# Altium schematic symbol library TarabusLib_KOR.SchLib: 323 symbols (part 3 of 4)
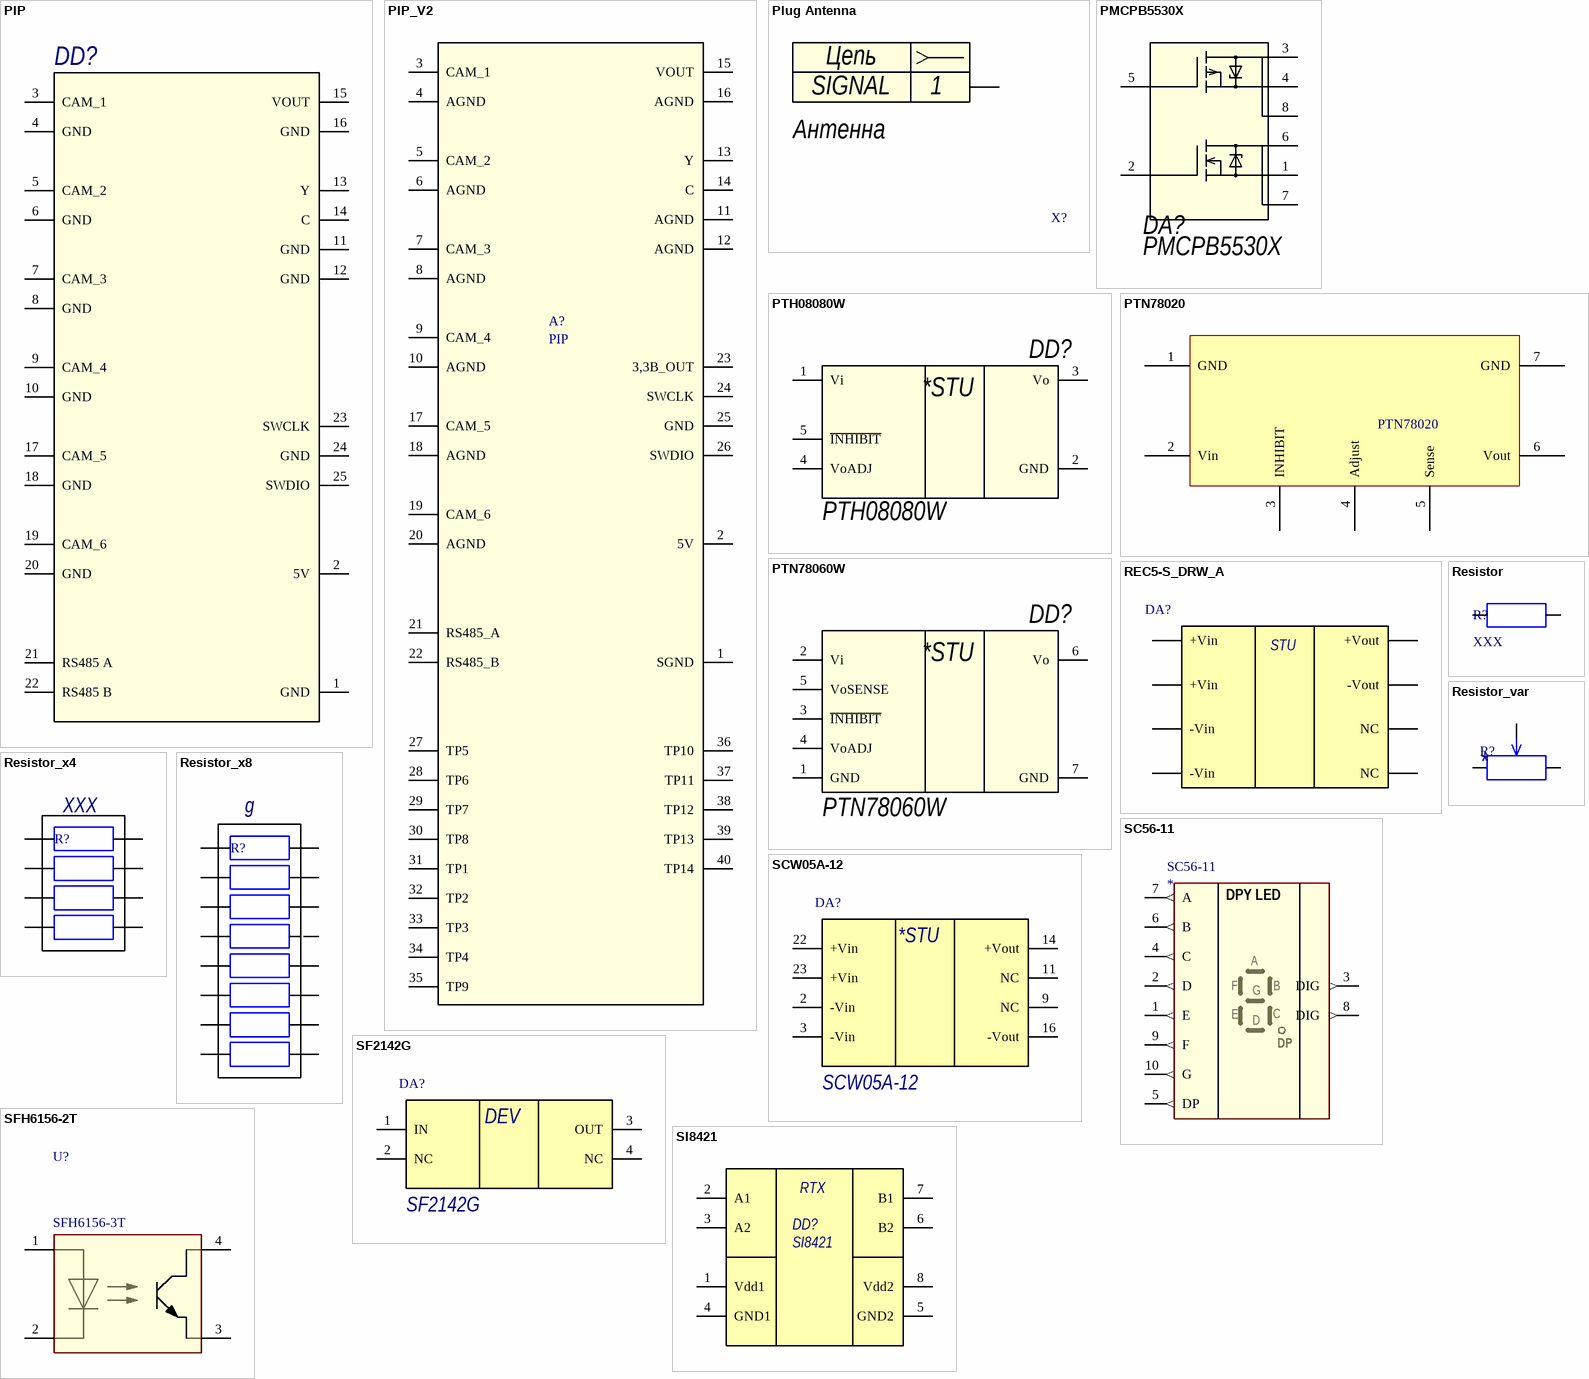
[diagram p44: symbols PIP to SI8421]

## PMCPB5530X
designator DA?  Name: PMCPB5530X  (hidden comment: *)
N & P MOSFET
footprint SOT1118
pins: 1, 2, 3, 4, 5, 6, 7, 8

## PTH08080W
designator DD?
DC-DC 2.5А; Name: PTH08080W
footprint PTN7860
pins: 1 Vi, 2 GND, 3 Vo, 4 VoADJ, 5 ~{INHIBIT}
text: *STU

## PTN78020
designator PTN78020  (value not drawn)
pins: 1 GND, 2 Vin, 3 INHIBIT, 4 Adjust, 5 Sense, 6 Vout, 7 GND

## PTN78060W
designator DD?
Name: PTN78060W
footprint PTN7860
pins: 1 GND, 2 Vi, 3 ~{INHIBIT}, 4 VoADJ, 5 VoSENSE, 6 Vo, 7 GND
text: *STU

## REC5-S_DRW_A
designator DA?
=Name: REC5-S_DRW
footprint SCW05
pins: 2 -Vin (power), 3 -Vin (power), 9 NC, 11 NC, 14 +Vout (power), 16 -Vout (power), 22 +Vin (power), 23 +Vin (power)
text: STU

## Resistor
designator R?, comment XXX
Резистор; Value: XXX
footprint R0805
footprint R2512
pins: 1, 2

## Resistor_var
designator R?
Value: *
footprint Res_trimmer
pins: 1, 2, 3

## Resistor_x4
designator R?, comment XXX
Резистор; Value: XXX
footprint R0402_A
footprint R0402_H
footprint R0603_H
footprint R0805_A
footprint R0805_H
footprint R1206_A
footprint R1206_H
footprint R1210_A
footprint R1210_H
footprint R2010_A
footprint R2010_H
footprint R2512_A
footprint R2512_H
footprint R0603_A
footprint R0603x4
pins: 1, 2, 3, 4, 5, 6, 7, 8

## Resistor_x8
designator R?, comment g
Резистор; Value: g
footprint R0402_A
footprint R0402_H
footprint R0603_H
footprint R0805_A
footprint R0805_H
footprint R1206_A
footprint R1206_H
footprint R1210_A
footprint R1210_H
footprint R2010_A
footprint R2010_H
footprint R2512_A
footprint R2512_H
footprint R0603_A
footprint R0603x4
footprint R0603x8
pins: 1, 2, 3, 4, 5, 6, 7, 8, 9, 10, 11, 12, 13, 14, 15, 16

## SC56-11
designator SC56-11
7-ми сегментный 1 разрядный цифровой индикатор; Назначение: Длительность
pins: 1 E (out), 2 D (out), 3 DIG (out), 4 C (out), 5 DP (out), 6 B (out), 7 A (out), 8 DIG (out), 9 F (out), 10 G (out)
text: DPY LED

## SCW05A-12
designator DA?
DC\DC; Name: SCW05A-12
footprint SCW05
pins: 2 -Vin, 3 -Vin, 9 NC, 11 NC, 14 +Vout, 16 -Vout, 22 +Vin, 23 +Vin
text: *STU

## SF2142G
designator DA?
867.5 MHz SAW Filter; Name: SF2142G
footprint SM2520-4_A
pins: 1 IN, 2 NC, 3 OUT, 4 NC
text: DEV

## SFH6156-2T
designator U?, comment SFH6156-3T
4-Pin Phototransistor Optocoupler; Published: 24-Mar-1999; LatestRevisionDate: 04-Mar-2005; LatestRevisionNote: Sch pins 3 & 4 Swapped.; DatasheetVersion: Nov-2003; PackageReference: DIP-4; Publisher: Altium Limited
footprint DIP-4 (DIP; 4 Leads; Row Spacing 7.62 mm; Pitch 2.54 mm)
pins: 1, 2, 3, 4

## SI8421
designator DD?
Name: SI8421
footprint SOIC127P600X175-8N (SOIC, 8-Leads, Body 5,0x4,0mm (max), Pitch 1,27mm, IPC Medium Density)
pins: 1 Vdd1, 2 A1, 3 A2, 4 GND1, 5 GND2, 6 B2, 7 B1, 8 Vdd2
text: RTX

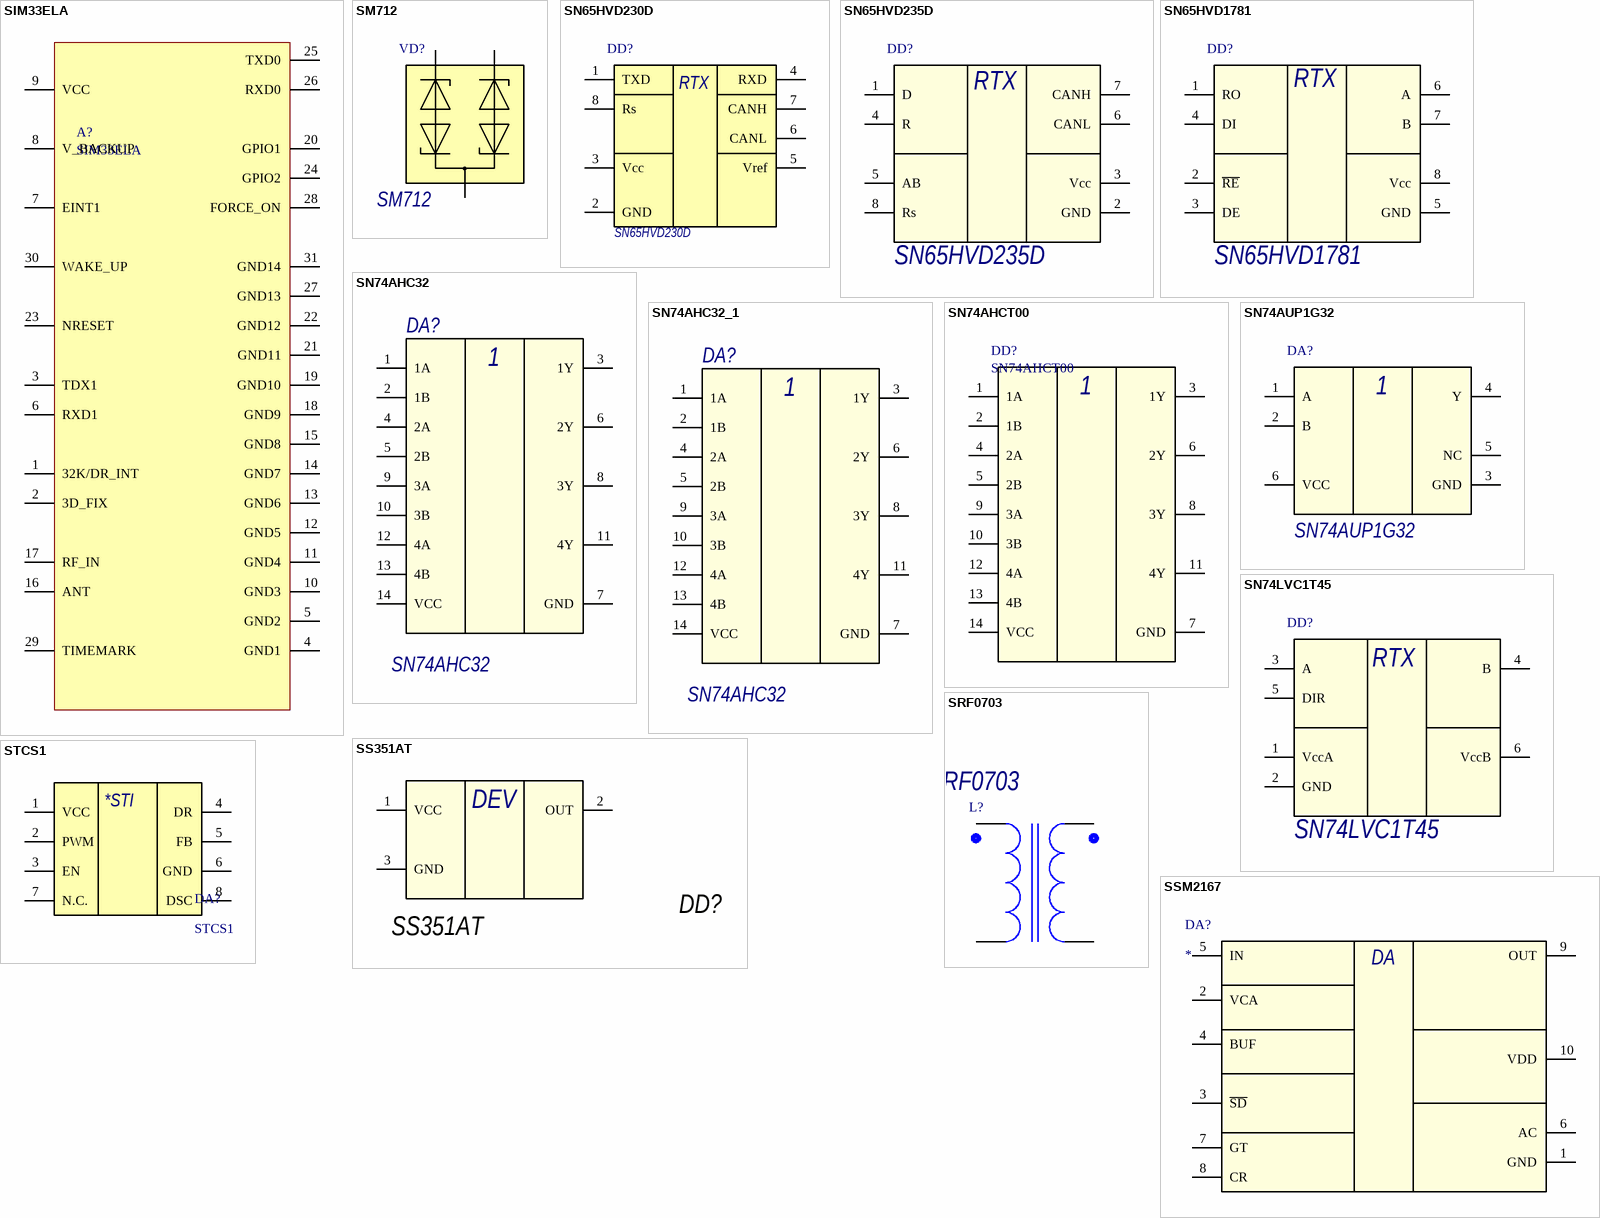
[diagram p20: symbols SIM33ELA to STCS1]

## SIM33ELA
designator A?
Manufacturer: SimCom; ComponentLink1URL: http://www.macrogroup.ru/catalog/partnumber/1485; ComponentLink1Description: Datasheet
pins: 1 32K/DR_INT, 2 3D_FIX, 3 TDX1, 4 GND1, 5 GND2, 6 RXD1, 7 EINT1, 8 V_BACKUP, 9 VCC, 10 GND3, 11 GND4, 12 GND5, 13 GND6, 14 GND7, 15 GND8, 16 ANT, 17 RF_IN, 18 GND9, 19 GND10, 20 GPIO1, 21 GND11, 22 GND12, 23 NRESET, 24 GPIO2, 25 TXD0, 26 RXD0, 27 GND13, 28 FORCE_ON, 29 TIMEMARK, 30 WAKE_UP, 31 GND14

## SM712
designator VD?
Сборка TVS-диодов; Name: SM712
footprint SOT23-3_A
footprint SOT23-3_H
pins: 1, 2, 3

## SN65HVD230D
designator DD?
Приемопередатчик CAN; Name: SN65HVD230D
footprint SO8_A
footprint SO8_H
pins: 1 TXD, 2 GND, 3 Vcc, 4 RXD, 5 Vref, 6 CANL, 7 CANH, 8 Rs
text: RTX

## SN65HVD235D
designator DD?
Приемопередатчик CAN; Name: SN65HVD235D
footprint SO8_A
footprint SO8_H
pins: 1 D, 2 GND, 3 Vcc, 4 R, 5 AB, 6 CANL, 7 CANH, 8 Rs
text: RTX

## SN65HVD1781
designator DD?
Приемопередатчик RS485; Name: SN65HVD1781
footprint SO8_A
footprint SO8_H
pins: 1 RO, 2 ~{RE}, 3 DE, 4 DI, 5 GND, 6 A, 7 B, 8 Vcc
text: RTX

## SN74AHC32
designator DA?
QUADRUPLE 2-INPUT POSITIVE-OR GATES; Value: Value; Name: SN74AHC32
footprint S-PVQFN-N14_H
footprint S-PVQFN-N14_A
pins: 1 1A, 2 1B, 3 1Y, 4 2A, 5 2B, 6 2Y, 7 GND, 8 3Y, 9 3A, 10 3B, 11 4Y, 12 4A, 13 4B, 14 VCC

## SN74AHC32_1
designator DA?, comment SN74AHC32
QUADRUPLE 2-INPUT POSITIVE-OR GATES; Value: Value; Name: SN74AHC32
footprint S-PVQFN-N14_H
footprint S-PVQFN-N14_A
pins: 1 1A, 2 1B, 3 1Y, 4 2A, 5 2B, 6 2Y, 7 GND, 8 3Y, 9 3A, 10 3B, 11 4Y, 12 4A, 13 4B, 14 VCC

## SN74AHCT00
designator DD?
Name: SN74AHCT00
pins: 1 1A, 2 1B, 3 1Y, 4 2A, 5 2B, 6 2Y, 7 GND, 8 3Y, 9 3A, 10 3B, 11 4Y, 12 4A, 13 4B, 14 VCC

## SN74AUP1G32
designator DA?
Name: SN74AUP1G32
footprint 6SON (PSON, 6-Leads, Body 3x4 mm, Pitch 0.8mm, NSC Recommended)
pins: 1 A, 2 B, 3 GND, 4 Y, 5 NC, 6 VCC

## SN74LVC1T45
designator DD?
Преобразователь уровней; Name: SN74LVC1T45
pins: 1 VccA, 2 GND, 3 A, 4 B, 5 DIR, 6 VccB
text: RTX

## SRF0703
designator L?, comment Name: SRF0703  (hidden comment: XXX)
Синфазный дроссель; Value: XXX
footprint SRF0703
pins: 1, 2, 3, 4

## SS351AT
designator DD?  (value not drawn)
SS351AT; Name: SS351AT
footprint SOT23-3_A
footprint SOT23-3_H
footprint TO-92
pins: 1 VCC, 2 OUT, 3 GND
text: DEV

## SSM2167
designator DA?
Name: *
footprint TSSO3x5-G10 (Shrink Small Outline; 10 Leads; Body Width 3 mm; Pitch 0.5 mm)
pins: 1 GND, 2 VCA, 3 ~{SD}, 4 BUF, 5 IN, 6 AC, 7 GT, 8 CR, 9 OUT, 10 VDD
text: DA

## STCS1
designator DA?
Драйвер светодиодов
footprint SO8_H
pins: 1 VCC, 2 PWM, 3 EN, 4 DR, 5 FB, 6 GND, 7 N.C., 8 DSC
text: *STI

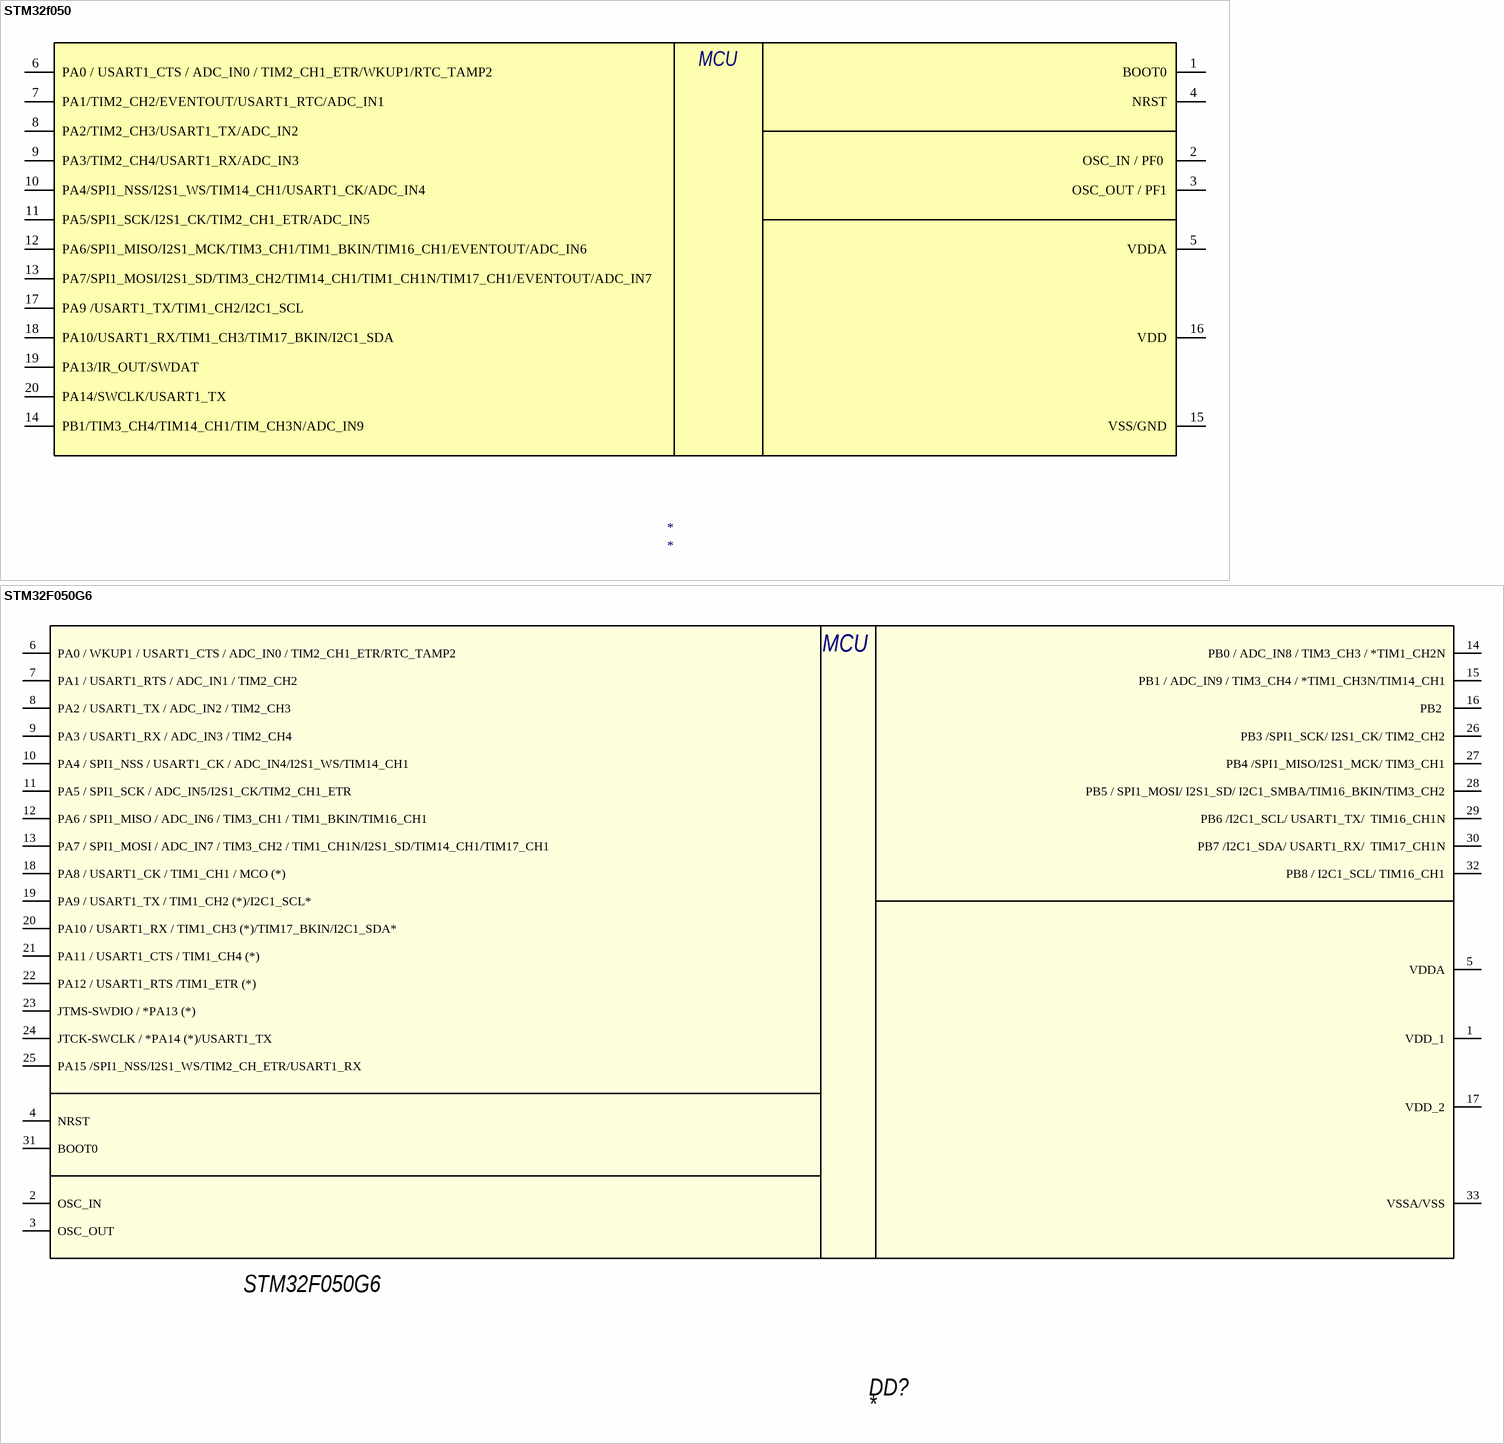
[diagram p21: symbols STM32f050 to STM32F050G6]

## STM32f050
designator *
Микроконтроллер
footprint TSSOP20
pins: 1 BOOT0, 2 OSC_IN / PF0 , 3 OSC_OUT / PF1, 4 NRST, 5 VDDA, 6 PA0 / USART1_CTS / ADC_IN0 / TIM2_CH1_ETR/WKUP1/RTC_TAMP2, 7 PA1/TIM2_CH2/EVENTOUT/USART1_RTC/ADC_IN1, 8 PA2/TIM2_CH3/USART1_TX/ADC_IN2, 9 PA3/TIM2_CH4/USART1_RX/ADC_IN3, 10 PA4/SPI1_NSS/I2S1_WS/TIM14_CH1/USART1_CK/ADC_IN4, 11 PA5/SPI1_SCK/I2S1_CK/TIM2_CH1_ETR/ADC_IN5, 12 PA6/SPI1_MISO/I2S1_MCK/TIM3_CH1/TIM1_BKIN/TIM16_CH1/EVENTOUT/ADC_IN6, 13 PA7/SPI1_MOSI/I2S1_SD/TIM3_CH2/TIM14_CH1/TIM1_CH1N/TIM17_CH1/EVENTOUT/ADC_IN7, 14 PB1/TIM3_CH4/TIM14_CH1/TIM_CH3N/ADC_IN9, 15 VSS/GND, 16 VDD, 17 PA9 /USART1_TX/TIM1_CH2/I2C1_SCL, 18 PA10/USART1_RX/TIM1_CH3/TIM17_BKIN/I2C1_SDA, 19 PA13/IR_OUT/SWDAT, 20 PA14/SWCLK/USART1_TX
text: MCU

## STM32F050G6
designator DD?  Name: STM32F050G6
Микроконтроллер
footprint UFQFPN 32
pins: 1 VDD_1, 2 OSC_IN, 3 OSC_OUT, 4 NRST, 5 VDDA, 6 PA0 / WKUP1 / USART1_CTS / ADC_IN0 / TIM2_CH1_ETR/RTC_TAMP2, 7 PA1 / USART1_RTS / ADC_IN1 / TIM2_CH2, 8 PA2 / USART1_TX / ADC_IN2 / TIM2_CH3, 9 PA3 / USART1_RX / ADC_IN3 / TIM2_CH4, 10 PA4 / SPI1_NSS / USART1_CK / ADC_IN4/I2S1_WS/TIM14_CH1, 11 PA5 / SPI1_SCK / ADC_IN5/I2S1_CK/TIM2_CH1_ETR, 12 PA6 / SPI1_MISO / ADC_IN6 / TIM3_CH1 / TIM1_BKIN/TIM16_CH1, 13 PA7 / SPI1_MOSI / ADC_IN7 / TIM3_CH2 / TIM1_CH1N/I2S1_SD/TIM14_CH1/TIM17_CH1, 14 PB0 / ADC_IN8 / TIM3_CH3 / *TIM1_CH2N, 15 PB1 / ADC_IN9 / TIM3_CH4 / *TIM1_CH3N/TIM14_CH1, 16 PB2 , 17 VDD_2, 18 PA8 / USART1_CK / TIM1_CH1 / MCO (*), 19 PA9 / USART1_TX / TIM1_CH2 (*)/I2C1_SCL*, 20 PA10 / USART1_RX / TIM1_CH3 (*)/TIM17_BKIN/I2C1_SDA*, 21 PA11 / USART1_CTS / TIM1_CH4 (*), 22 PA12 / USART1_RTS /TIM1_ETR (*), 23 JTMS-SWDIO / *PA13 (*), 24 JTCK-SWCLK / *PA14 (*)/USART1_TX, 25 PA15 /SPI1_NSS/I2S1_WS/TIM2_CH_ETR/USART1_RX , 26 PB3 /SPI1_SCK/ I2S1_CK/ TIM2_CH2, 27 PB4 /SPI1_MISO/I2S1_MCK/ TIM3_CH1, 28 PB5 / SPI1_MOSI/ I2S1_SD/ I2C1_SMBA/TIM16_BKIN/TIM3_CH2, 29 PB6 /I2C1_SCL/ USART1_TX/  TIM16_CH1N, 30 PB7 /I2C1_SDA/ USART1_RX/  TIM17_CH1N, 31 BOOT0, 32 PB8 / I2C1_SCL/ TIM16_CH1, 33 VSSA/VSS
text: MCU

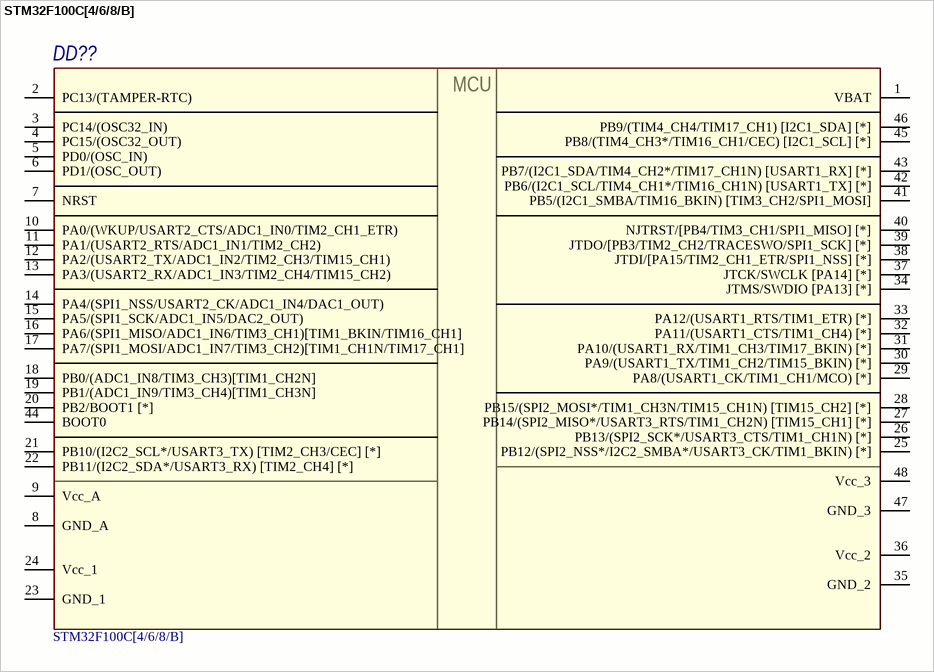
[diagram p22: symbol STM32F100C[4/6/8/B]]

## STM32F100C[4/6/8/B]
designator DD??
Микроконтроллер; Name: STM32F100C[4/6/8/B]
footprint LQFP48_H
footprint LQFP48_L (Thin QFP, 48-Leads, Body 7x7mm, Pitch 0.5mm, IPC High Density)
pins: 1 VBAT, 2 PC13/(TAMPER-RTC), 3 PC14/(OSC32_IN), 4 PC15/(OSC32_OUT), 5 PD0/(OSC_IN), 6 PD1/(OSC_OUT), 7 NRST, 8 GND_A, 9 Vcc_A, 10 PA0/(WKUP/USART2_CTS/ADC1_IN0/TIM2_CH1_ETR), 11 PA1/(USART2_RTS/ADC1_IN1/TIM2_CH2), 12 PA2/(USART2_TX/ADC1_IN2/TIM2_CH3/TIM15_CH1), 13 PA3/(USART2_RX/ADC1_IN3/TIM2_CH4/TIM15_CH2), 14 PA4/(SPI1_NSS/USART2_CK/ADC1_IN4/DAC1_OUT), 15 PA5/(SPI1_SCK/ADC1_IN5/DAC2_OUT), 16 PA6/(SPI1_MISO/ADC1_IN6/TIM3_CH1)[TIM1_BKIN/TIM16_CH1], 17 PA7/(SPI1_MOSI/ADC1_IN7/TIM3_CH2)[TIM1_CH1N/TIM17_CH1], 18 PB0/(ADC1_IN8/TIM3_CH3)[TIM1_CH2N], 19 PB1/(ADC1_IN9/TIM3_CH4)[TIM1_CH3N], 20 PB2/BOOT1 [*], 21 PB10/(I2C2_SCL*/USART3_TX) [TIM2_CH3/CEC] [*], 22 PB11/(I2C2_SDA*/USART3_RX) [TIM2_CH4] [*], 23 GND_1, 24 Vcc_1, 25 PB12/(SPI2_NSS*/I2C2_SMBA*/USART3_CK/TIM1_BKIN) [*], 26 PB13/(SPI2_SCK*/USART3_CTS/TIM1_CH1N) [*], 27 PB14/(SPI2_MISO*/USART3_RTS/TIM1_CH2N) [TIM15_CH1] [*], 28 PB15/(SPI2_MOSI*/TIM1_CH3N/TIM15_CH1N) [TIM15_CH2] [*], 29 PA8/(USART1_CK/TIM1_CH1/MCO) [*], 30 PA9/(USART1_TX/TIM1_CH2/TIM15_BKIN) [*], 31 PA10/(USART1_RX/TIM1_CH3/TIM17_BKIN) [*], 32 PA11/(USART1_CTS/TIM1_CH4) [*], 33 PA12/(USART1_RTS/TIM1_ETR) [*], 34 JTMS/SWDIO [PA13] [*], 35 GND_2, 36 Vcc_2, 37 JTCK/SWCLK [PA14] [*], 38 JTDI/[PA15/TIM2_CH1_ETR/SPI1_NSS] [*], 39 JTDO/[PB3/TIM2_CH2/TRACESWO/SPI1_SCK] [*], 40 NJTRST/[PB4/TIM3_CH1/SPI1_MISO] [*], 41 PB5/(I2C1_SMBA/TIM16_BKIN) [TIM3_CH2/SPI1_MOSI], 42 PB6/(I2C1_SCL/TIM4_CH1*/TIM16_CH1N) [USART1_TX] [*], 43 PB7/(I2C1_SDA/TIM4_CH2*/TIM17_CH1N) [USART1_RX] [*], 44 BOOT0, 45 PB8/(TIM4_CH3*/TIM16_CH1/CEC) [I2C1_SCL] [*], 46 PB9/(TIM4_CH4/TIM17_CH1) [I2C1_SDA] [*], 47 GND_3, 48 Vcc_3
text: MCU

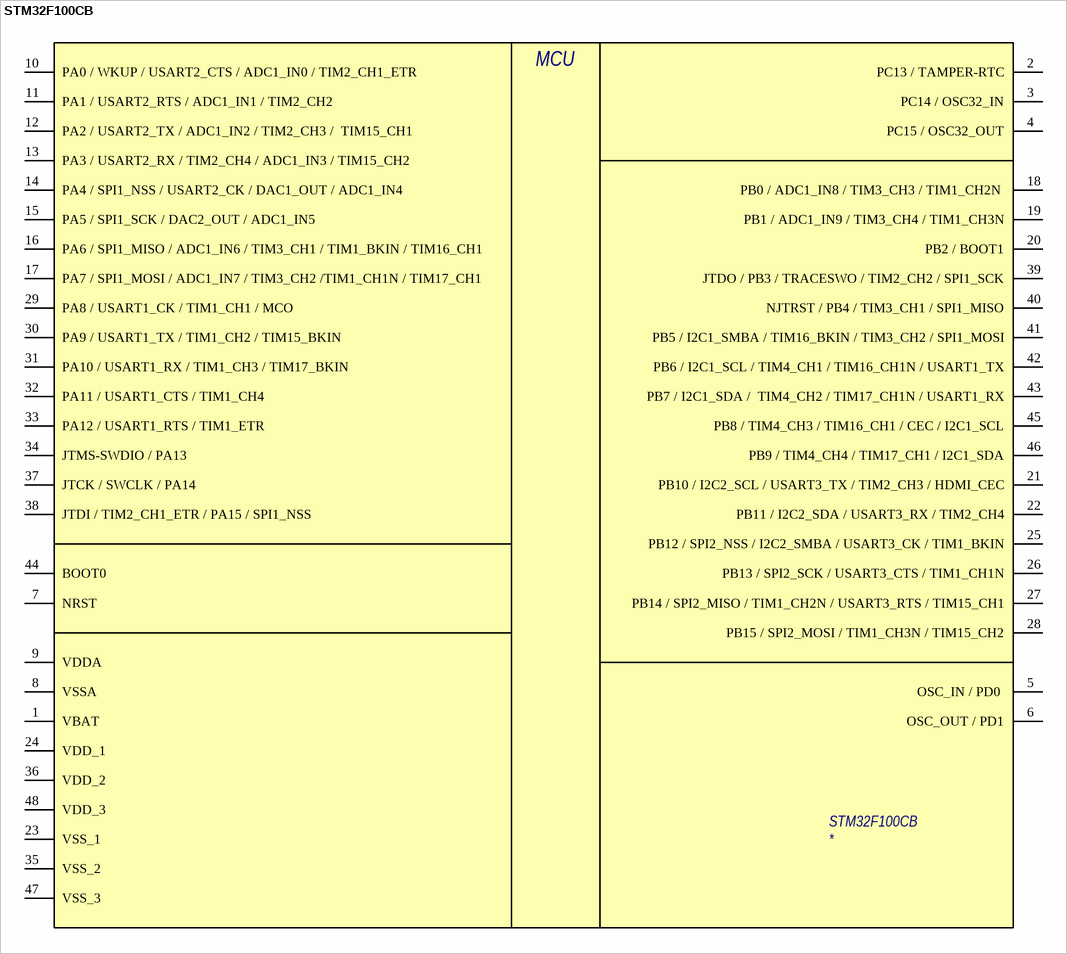
[diagram p23: symbol STM32F100CB]

## STM32F100CB
designator STM32F100CB
Микроконтроллер
footprint LQFP48_H
footprint LQFP48_L (Thin QFP, 48-Leads, Body 7x7mm, Pitch 0.5mm, IPC High Density)
pins: 1 VBAT, 2 PC13 / TAMPER-RTC, 3 PC14 / OSC32_IN, 4 PC15 / OSC32_OUT, 5 OSC_IN / PD0 , 6 OSC_OUT / PD1, 7 NRST, 8 VSSA, 9 VDDA, 10 PA0 / WKUP / USART2_CTS / ADC1_IN0 / TIM2_CH1_ETR , 11 PA1 / USART2_RTS / ADC1_IN1 / TIM2_CH2 , 12 PA2 / USART2_TX / ADC1_IN2 / TIM2_CH3 /  TIM15_CH1, 13 PA3 / USART2_RX / TIM2_CH4 / ADC1_IN3 / TIM15_CH2, 14 PA4 / SPI1_NSS / USART2_CK / DAC1_OUT / ADC1_IN4, 15 PA5 / SPI1_SCK / DAC2_OUT / ADC1_IN5, 16 PA6 / SPI1_MISO / ADC1_IN6 / TIM3_CH1 / TIM1_BKIN / TIM16_CH1, 17 PA7 / SPI1_MOSI / ADC1_IN7 / TIM3_CH2 /TIM1_CH1N / TIM17_CH1, 18 PB0 / ADC1_IN8 / TIM3_CH3 / TIM1_CH2N , 19 PB1 / ADC1_IN9 / TIM3_CH4 / TIM1_CH3N, 20 PB2 / BOOT1, 21 PB10 / I2C2_SCL / USART3_TX / TIM2_CH3 / HDMI_CEC, 22 PB11 / I2C2_SDA / USART3_RX / TIM2_CH4, 23 VSS_1, 24 VDD_1, 25 PB12 / SPI2_NSS / I2C2_SMBA / USART3_CK / TIM1_BKIN, 26 PB13 / SPI2_SCK / USART3_CTS / TIM1_CH1N, 27 PB14 / SPI2_MISO / TIM1_CH2N / USART3_RTS / TIM15_CH1, 28 PB15 / SPI2_MOSI / TIM1_CH3N / TIM15_CH2, 29 PA8 / USART1_CK / TIM1_CH1 / MCO, 30 PA9 / USART1_TX / TIM1_CH2 / TIM15_BKIN, 31 PA10 / USART1_RX / TIM1_CH3 / TIM17_BKIN, 32 PA11 / USART1_CTS / TIM1_CH4, 33 PA12 / USART1_RTS / TIM1_ETR, 34 JTMS-SWDIO / PA13, 35 VSS_2, 36 VDD_2, 37 JTCK / SWCLK / PA14, 38 JTDI / TIM2_CH1_ETR / PA15 / SPI1_NSS, 39 JTDO / PB3 / TRACESWO / TIM2_CH2 / SPI1_SCK, 40 NJTRST / PB4 / TIM3_CH1 / SPI1_MISO, 41 PB5 / I2C1_SMBA / TIM16_BKIN / TIM3_CH2 / SPI1_MOSI, 42 PB6 / I2C1_SCL / TIM4_CH1 / TIM16_CH1N / USART1_TX, 43 PB7 / I2C1_SDA /  TIM4_CH2 / TIM17_CH1N / USART1_RX, 44 BOOT0, 45 PB8 / TIM4_CH3 / TIM16_CH1 / CEC / I2C1_SCL, 46 PB9 / TIM4_CH4 / TIM17_CH1 / I2C1_SDA, 47 VSS_3, 48 VDD_3
text: MCU

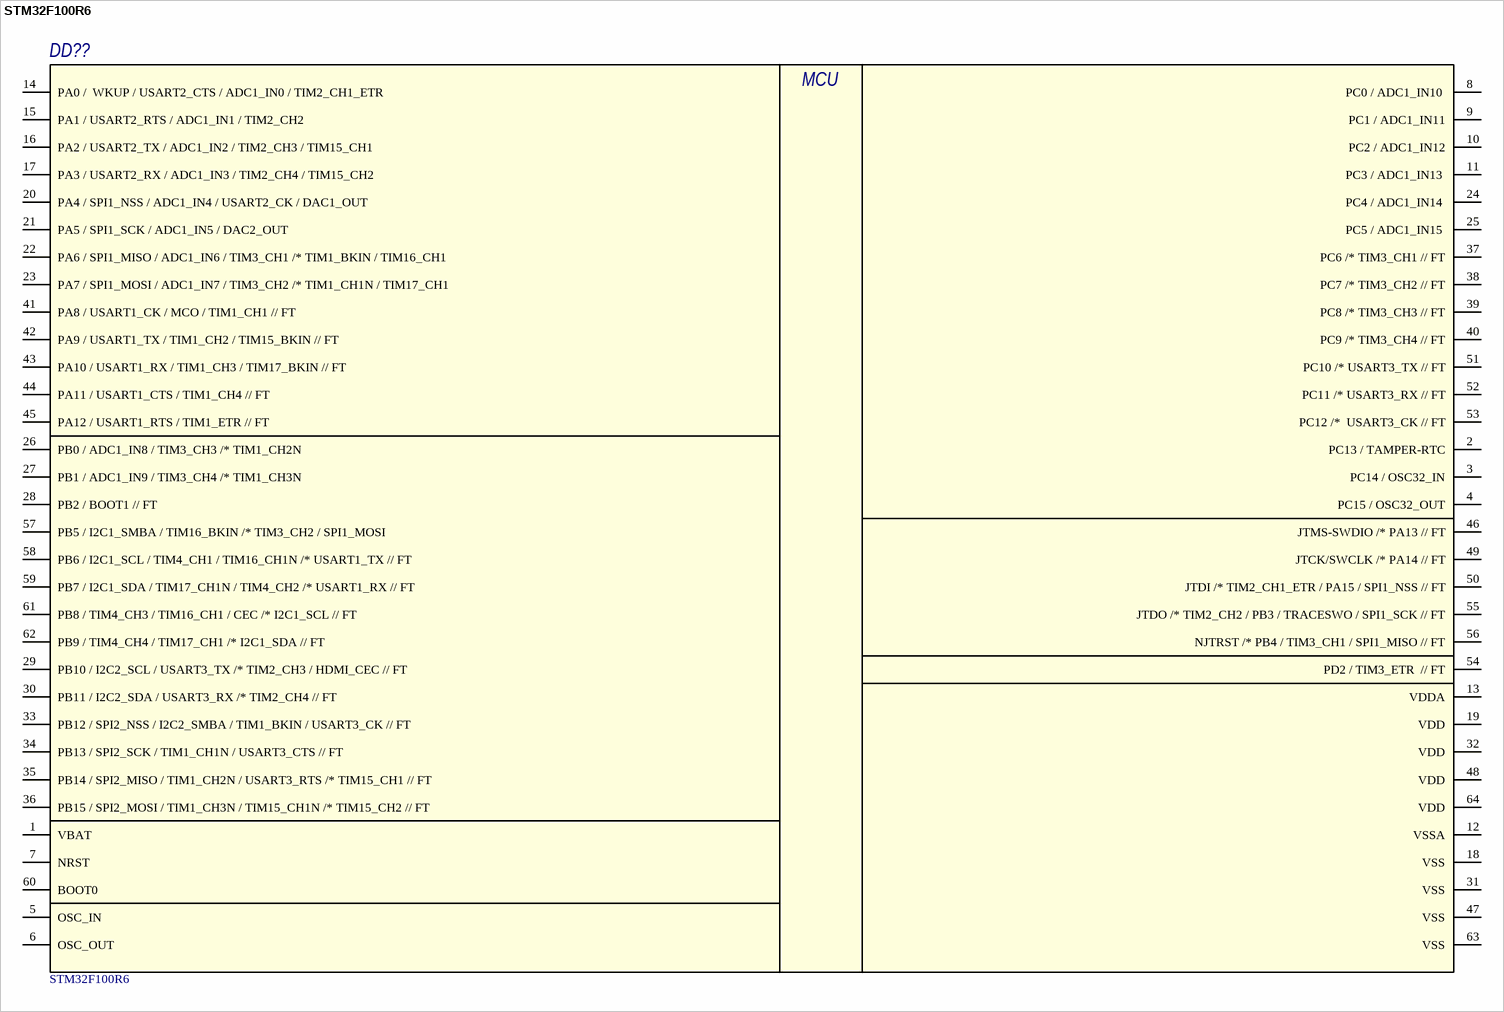
[diagram p24: symbol STM32F100R6]

## STM32F100R6
designator DD??
Микроконтроллер
footprint LQFP64_L (TSQFP, 64-Leads, Body 10,00x10,00mm, Pitch 0,50mm, IPC Medium Density)
footprint LQFP64_H (64-Pin Low Profile Quad Pack 0.5 mm Pitch, IPC High Density)
pins: 1 VBAT, 2 PC13 / TAMPER-RTC, 3 PC14 / OSC32_IN, 4 PC15 / OSC32_OUT, 5 OSC_IN, 6 OSC_OUT, 7 NRST, 8 PC0 / ADC1_IN10 , 9 PC1 / ADC1_IN11, 10 PC2 / ADC1_IN12, 11 PC3 / ADC1_IN13 , 12 VSSA, 13 VDDA, 14 PA0 /  WKUP / USART2_CTS / ADC1_IN0 / TIM2_CH1_ETR, 15 PA1 / USART2_RTS / ADC1_IN1 / TIM2_CH2, 16 PA2 / USART2_TX / ADC1_IN2 / TIM2_CH3 / TIM15_CH1, 17 PA3 / USART2_RX / ADC1_IN3 / TIM2_CH4 / TIM15_CH2, 18 VSS, 19 VDD, 20 PA4 / SPI1_NSS / ADC1_IN4 / USART2_CK / DAC1_OUT, 21 PA5 / SPI1_SCK / ADC1_IN5 / DAC2_OUT, 22 PA6 / SPI1_MISO / ADC1_IN6 / TIM3_CH1 /* TIM1_BKIN / TIM16_CH1, 23 PA7 / SPI1_MOSI / ADC1_IN7 / TIM3_CH2 /* TIM1_CH1N / TIM17_CH1, 24 PC4 / ADC1_IN14 , 25 PC5 / ADC1_IN15 , 26 PB0 / ADC1_IN8 / TIM3_CH3 /* TIM1_CH2N, 27 PB1 / ADC1_IN9 / TIM3_CH4 /* TIM1_CH3N, 28 PB2 / BOOT1 // FT, 29 PB10 / I2C2_SCL / USART3_TX /* TIM2_CH3 / HDMI_CEC // FT, 30 PB11 / I2C2_SDA / USART3_RX /* TIM2_CH4 // FT, 31 VSS, 32 VDD, 33 PB12 / SPI2_NSS / I2C2_SMBA / TIM1_BKIN / USART3_CK // FT, 34 PB13 / SPI2_SCK / TIM1_CH1N / USART3_CTS // FT, 35 PB14 / SPI2_MISO / TIM1_CH2N / USART3_RTS /* TIM15_CH1 // FT, 36 PB15 / SPI2_MOSI / TIM1_CH3N / TIM15_CH1N /* TIM15_CH2 // FT, 37 PC6 /* TIM3_CH1 // FT, 38 PC7 /* TIM3_CH2 // FT, 39 PC8 /* TIM3_CH3 // FT, 40 PC9 /* TIM3_CH4 // FT, 41 PA8 / USART1_CK / MCO / TIM1_CH1 // FT, 42 PA9 / USART1_TX / TIM1_CH2 / TIM15_BKIN // FT, 43 PA10 / USART1_RX / TIM1_CH3 / TIM17_BKIN // FT, 44 PA11 / USART1_CTS / TIM1_CH4 // FT, 45 PA12 / USART1_RTS / TIM1_ETR // FT, 46 JTMS-SWDIO /* PA13 // FT, 47 VSS, 48 VDD, 49 JTCK/SWCLK /* PA14 // FT, 50 JTDI /* TIM2_CH1_ETR / PA15 / SPI1_NSS // FT, 51 PC10 /* USART3_TX // FT, 52 PC11 /* USART3_RX // FT, 53 PC12 /*  USART3_CK // FT, 54 PD2 / TIM3_ETR  // FT, 55 JTDO /* TIM2_CH2 / PB3 / TRACESWO / SPI1_SCK // FT, 56 NJTRST /* PB4 / TIM3_CH1 / SPI1_MISO // FT, 57 PB5 / I2C1_SMBA / TIM16_BKIN /* TIM3_CH2 / SPI1_MOSI, 58 PB6 / I2C1_SCL / TIM4_CH1 / TIM16_CH1N /* USART1_TX // FT, 59 PB7 / I2C1_SDA / TIM17_CH1N / TIM4_CH2 /* USART1_RX // FT, 60 BOOT0, 61 PB8 / TIM4_CH3 / TIM16_CH1 / CEC /* I2C1_SCL // FT, 62 PB9 / TIM4_CH4 / TIM17_CH1 /* I2C1_SDA // FT, 63 VSS, 64 VDD
text: MCU

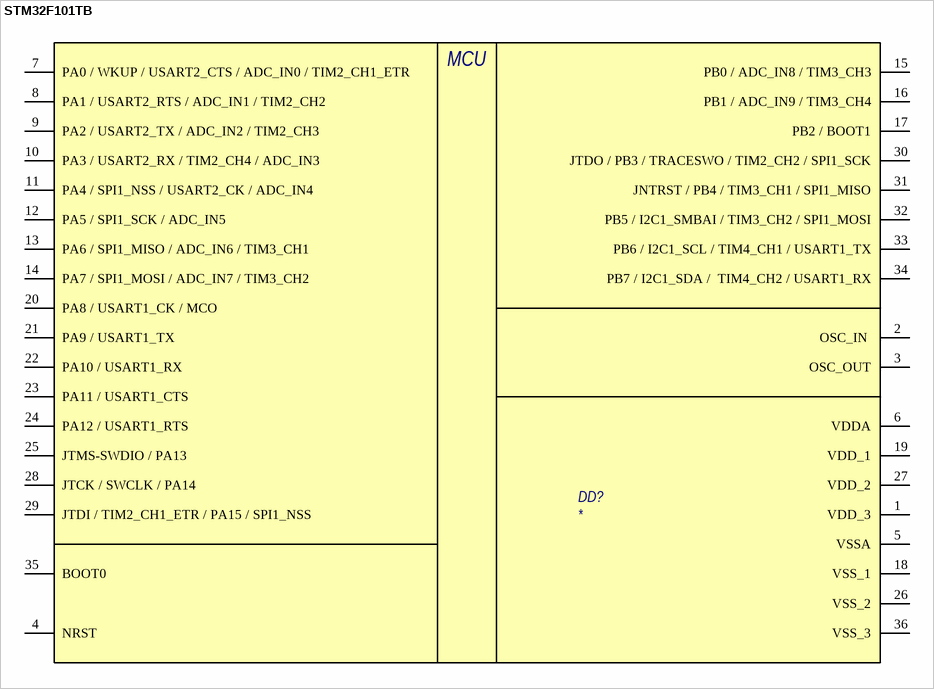
[diagram p25: symbol STM32F101TB]

## STM32F101TB
designator DD?
Микроконтроллер
footprint VFQFPN36_H
footprint VFQFPN36_A
pins: 1 VDD_3, 2 OSC_IN , 3 OSC_OUT, 4 NRST, 5 VSSA, 6 VDDA, 7 PA0 / WKUP / USART2_CTS / ADC_IN0 / TIM2_CH1_ETR , 8 PA1 / USART2_RTS / ADC_IN1 / TIM2_CH2 , 9 PA2 / USART2_TX / ADC_IN2 / TIM2_CH3, 10 PA3 / USART2_RX / TIM2_CH4 / ADC_IN3, 11 PA4 / SPI1_NSS / USART2_CK / ADC_IN4, 12 PA5 / SPI1_SCK / ADC_IN5, 13 PA6 / SPI1_MISO / ADC_IN6 / TIM3_CH1, 14 PA7 / SPI1_MOSI / ADC_IN7 / TIM3_CH2, 15 PB0 / ADC_IN8 / TIM3_CH3, 16 PB1 / ADC_IN9 / TIM3_CH4, 17 PB2 / BOOT1, 18 VSS_1, 19 VDD_1, 20 PA8 / USART1_CK / MCO, 21 PA9 / USART1_TX, 22 PA10 / USART1_RX, 23 PA11 / USART1_CTS, 24 PA12 / USART1_RTS, 25 JTMS-SWDIO / PA13, 26 VSS_2, 27 VDD_2, 28 JTCK / SWCLK / PA14, 29 JTDI / TIM2_CH1_ETR / PA15 / SPI1_NSS, 30 JTDO / PB3 / TRACESWO / TIM2_CH2 / SPI1_SCK, 31 JNTRST / PB4 / TIM3_CH1 / SPI1_MISO, 32 PB5 / I2C1_SMBAI / TIM3_CH2 / SPI1_MOSI, 33 PB6 / I2C1_SCL / TIM4_CH1 / USART1_TX, 34 PB7 / I2C1_SDA /  TIM4_CH2 / USART1_RX, 35 BOOT0, 36 VSS_3
text: MCU

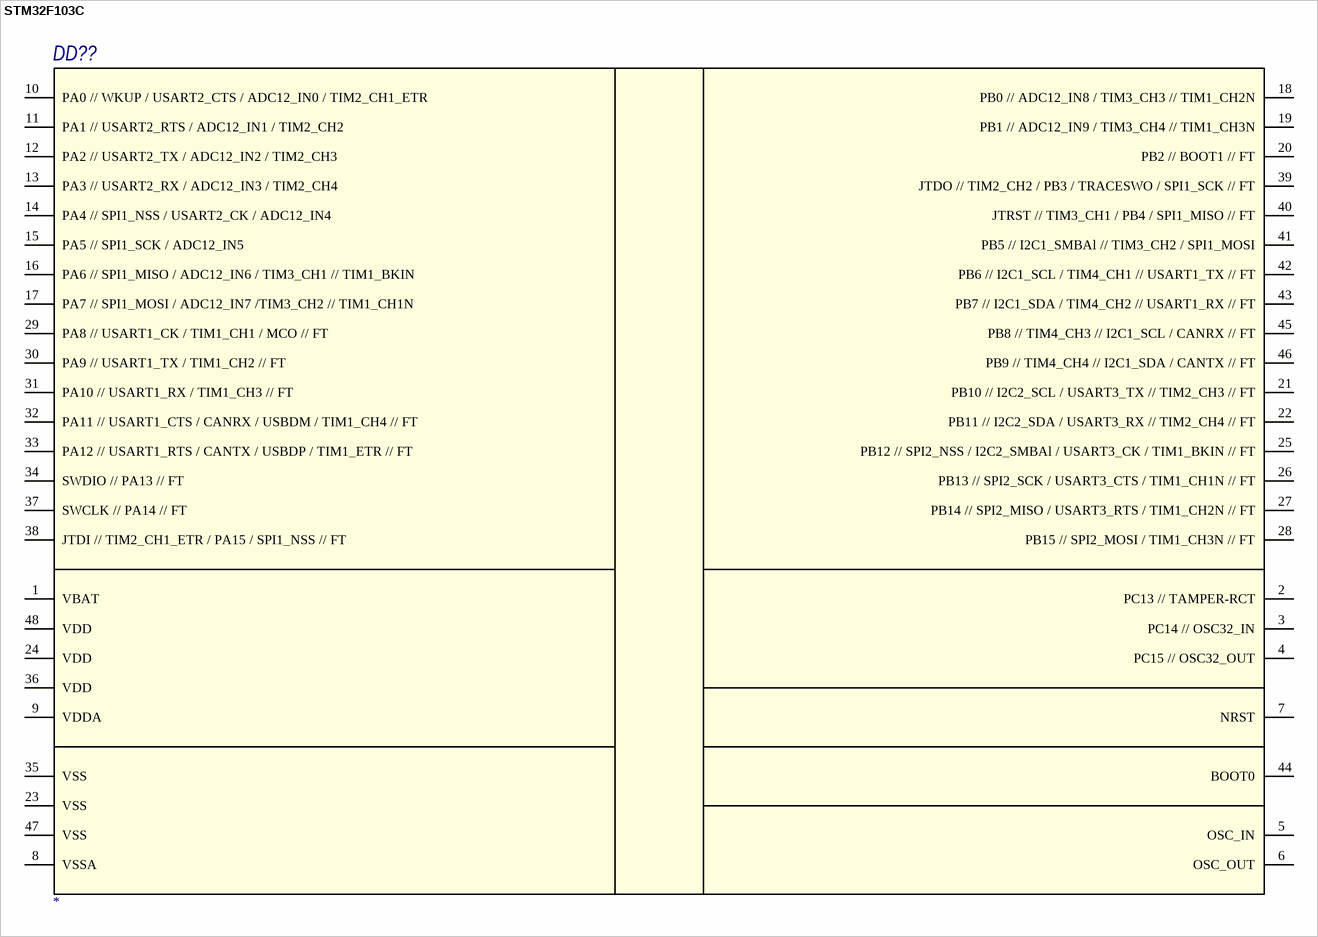
[diagram p26: symbol STM32F103C]

## STM32F103C
designator DD??
Микроконтроллер; Name: *
footprint LQFP48_H
footprint LQFP48_L (Thin QFP, 48-Leads, Body 7x7mm, Pitch 0.5mm, IPC High Density)
pins: 1 VBAT, 2 PC13 // TAMPER-RCT, 3 PC14 // OSC32_IN, 4 PC15 // OSC32_OUT, 5 OSC_IN, 6 OSC_OUT, 7 NRST, 8 VSSA, 9 VDDA, 10 PA0 // WKUP / USART2_CTS / ADC12_IN0 / TIM2_CH1_ETR, 11 PA1 // USART2_RTS / ADC12_IN1 / TIM2_CH2, 12 PA2 // USART2_TX / ADC12_IN2 / TIM2_CH3, 13 PA3 // USART2_RX / ADC12_IN3 / TIM2_CH4, 14 PA4 // SPI1_NSS / USART2_CK / ADC12_IN4, 15 PA5 // SPI1_SCK / ADC12_IN5, 16 PA6 // SPI1_MISO / ADC12_IN6 / TIM3_CH1 // TIM1_BKIN , 17 PA7 // SPI1_MOSI / ADC12_IN7 /TIM3_CH2 // TIM1_CH1N, 18 PB0 // ADC12_IN8 / TIM3_CH3 // TIM1_CH2N, 19 PB1 // ADC12_IN9 / TIM3_CH4 // TIM1_CH3N, 20 PB2 // BOOT1 // FT, 21 PB10 // I2C2_SCL / USART3_TX // TIM2_CH3 // FT, 22 PB11 // I2C2_SDA / USART3_RX // TIM2_CH4 // FT, 23 VSS, 24 VDD, 25 PB12 // SPI2_NSS / I2C2_SMBAl / USART3_CK / TIM1_BKIN // FT, 26 PB13 // SPI2_SCK / USART3_CTS / TIM1_CH1N // FT, 27 PB14 // SPI2_MISO / USART3_RTS / TIM1_CH2N // FT, 28 PB15 // SPI2_MOSI / TIM1_CH3N // FT, 29 PA8 // USART1_CK / TIM1_CH1 / MCO // FT, 30 PA9 // USART1_TX / TIM1_CH2 // FT, 31 PA10 // USART1_RX / TIM1_CH3 // FT, 32 PA11 // USART1_CTS / CANRX / USBDM / TIM1_CH4 // FT, 33 PA12 // USART1_RTS / CANTX / USBDP / TIM1_ETR // FT, 34 SWDIO // PA13 // FT, 35 VSS, 36 VDD, 37 SWCLK // PA14 // FT, 38 JTDI // TIM2_CH1_ETR / PA15 / SPI1_NSS // FT, 39 JTDO // TIM2_CH2 / PB3 / TRACESWO / SPI1_SCK // FT, 40 JTRST // TIM3_CH1 / PB4 / SPI1_MISO // FT, 41 PB5 // I2C1_SMBAl // TIM3_CH2 / SPI1_MOSI, 42 PB6 // I2C1_SCL / TIM4_CH1 // USART1_TX // FT, 43 PB7 // I2C1_SDA / TIM4_CH2 // USART1_RX // FT, 44 BOOT0, 45 PB8 // TIM4_CH3 // I2C1_SCL / CANRX // FT, 46 PB9 // TIM4_CH4 // I2C1_SDA / CANTX // FT, 47 VSS, 48 VDD

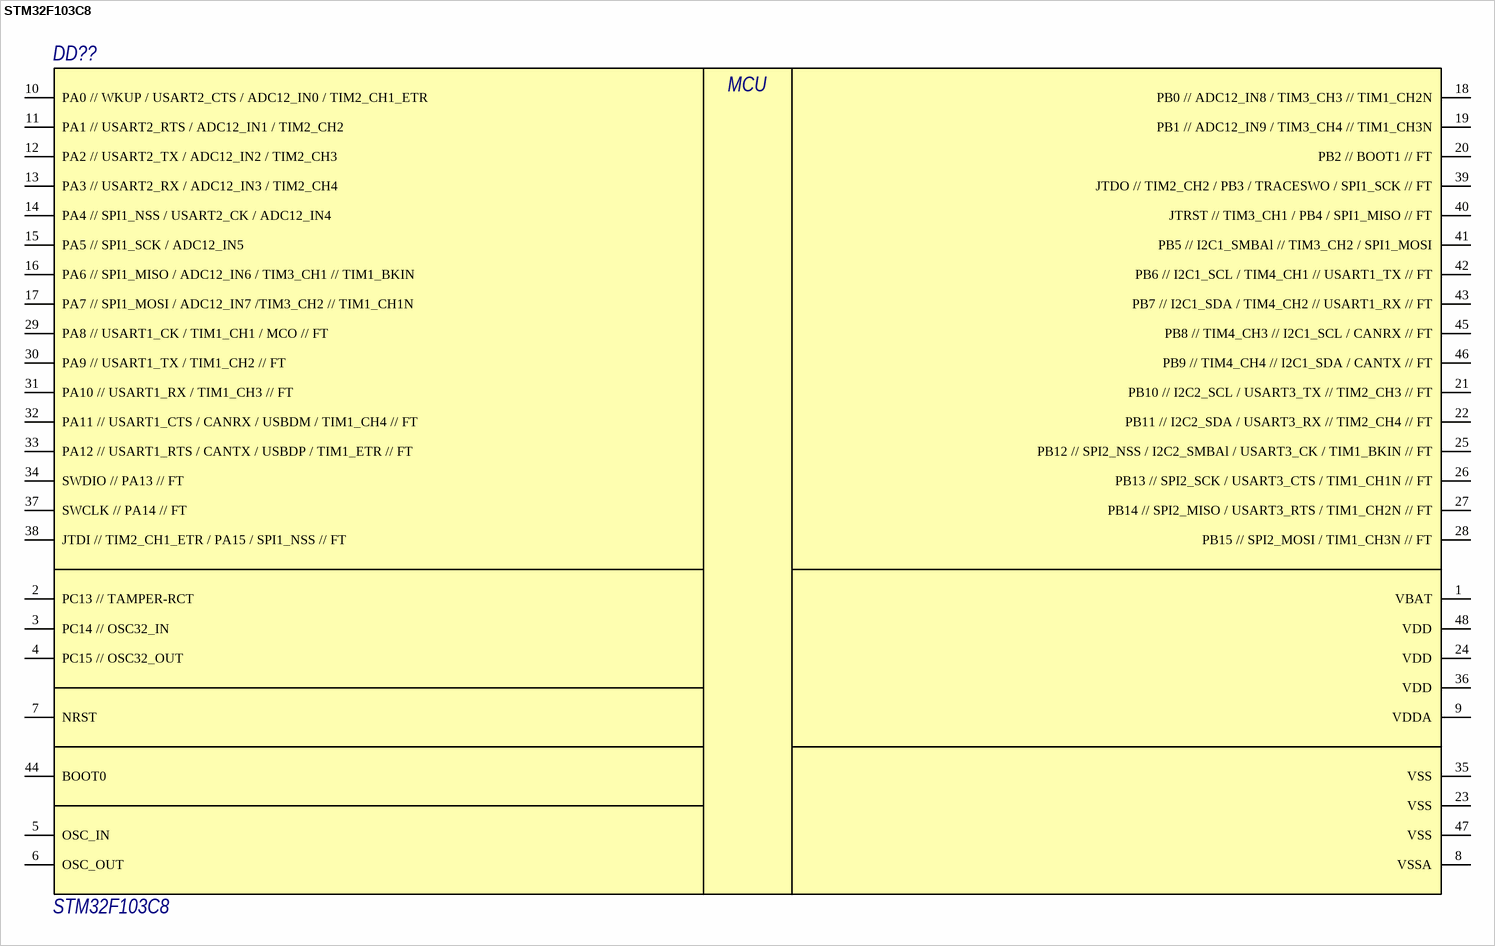
[diagram p27: symbol STM32F103C8]

## STM32F103C8
designator DD??
Микроконтроллер; Name: STM32F103C8
footprint LQFP48_H
footprint LQFP48_M (QFP, 48-Leads, Body 7x7mm, Pitch 0.5mm, IPC Low Density)
footprint LQFP48_L (Thin QFP, 48-Leads, Body 7x7mm, Pitch 0.5mm, IPC High Density)
pins: 1 VBAT, 2 PC13 // TAMPER-RCT, 3 PC14 // OSC32_IN, 4 PC15 // OSC32_OUT, 5 OSC_IN, 6 OSC_OUT, 7 NRST, 8 VSSA, 9 VDDA, 10 PA0 // WKUP / USART2_CTS / ADC12_IN0 / TIM2_CH1_ETR, 11 PA1 // USART2_RTS / ADC12_IN1 / TIM2_CH2, 12 PA2 // USART2_TX / ADC12_IN2 / TIM2_CH3, 13 PA3 // USART2_RX / ADC12_IN3 / TIM2_CH4, 14 PA4 // SPI1_NSS / USART2_CK / ADC12_IN4, 15 PA5 // SPI1_SCK / ADC12_IN5, 16 PA6 // SPI1_MISO / ADC12_IN6 / TIM3_CH1 // TIM1_BKIN , 17 PA7 // SPI1_MOSI / ADC12_IN7 /TIM3_CH2 // TIM1_CH1N, 18 PB0 // ADC12_IN8 / TIM3_CH3 // TIM1_CH2N, 19 PB1 // ADC12_IN9 / TIM3_CH4 // TIM1_CH3N, 20 PB2 // BOOT1 // FT, 21 PB10 // I2C2_SCL / USART3_TX // TIM2_CH3 // FT, 22 PB11 // I2C2_SDA / USART3_RX // TIM2_CH4 // FT, 23 VSS, 24 VDD, 25 PB12 // SPI2_NSS / I2C2_SMBAl / USART3_CK / TIM1_BKIN // FT, 26 PB13 // SPI2_SCK / USART3_CTS / TIM1_CH1N // FT, 27 PB14 // SPI2_MISO / USART3_RTS / TIM1_CH2N // FT, 28 PB15 // SPI2_MOSI / TIM1_CH3N // FT, 29 PA8 // USART1_CK / TIM1_CH1 / MCO // FT, 30 PA9 // USART1_TX / TIM1_CH2 // FT, 31 PA10 // USART1_RX / TIM1_CH3 // FT, 32 PA11 // USART1_CTS / CANRX / USBDM / TIM1_CH4 // FT, 33 PA12 // USART1_RTS / CANTX / USBDP / TIM1_ETR // FT, 34 SWDIO // PA13 // FT, 35 VSS, 36 VDD, 37 SWCLK // PA14 // FT, 38 JTDI // TIM2_CH1_ETR / PA15 / SPI1_NSS // FT, 39 JTDO // TIM2_CH2 / PB3 / TRACESWO / SPI1_SCK // FT, 40 JTRST // TIM3_CH1 / PB4 / SPI1_MISO // FT, 41 PB5 // I2C1_SMBAl // TIM3_CH2 / SPI1_MOSI, 42 PB6 // I2C1_SCL / TIM4_CH1 // USART1_TX // FT, 43 PB7 // I2C1_SDA / TIM4_CH2 // USART1_RX // FT, 44 BOOT0, 45 PB8 // TIM4_CH3 // I2C1_SCL / CANRX // FT, 46 PB9 // TIM4_CH4 // I2C1_SDA / CANTX // FT, 47 VSS, 48 VDD
text: MCU

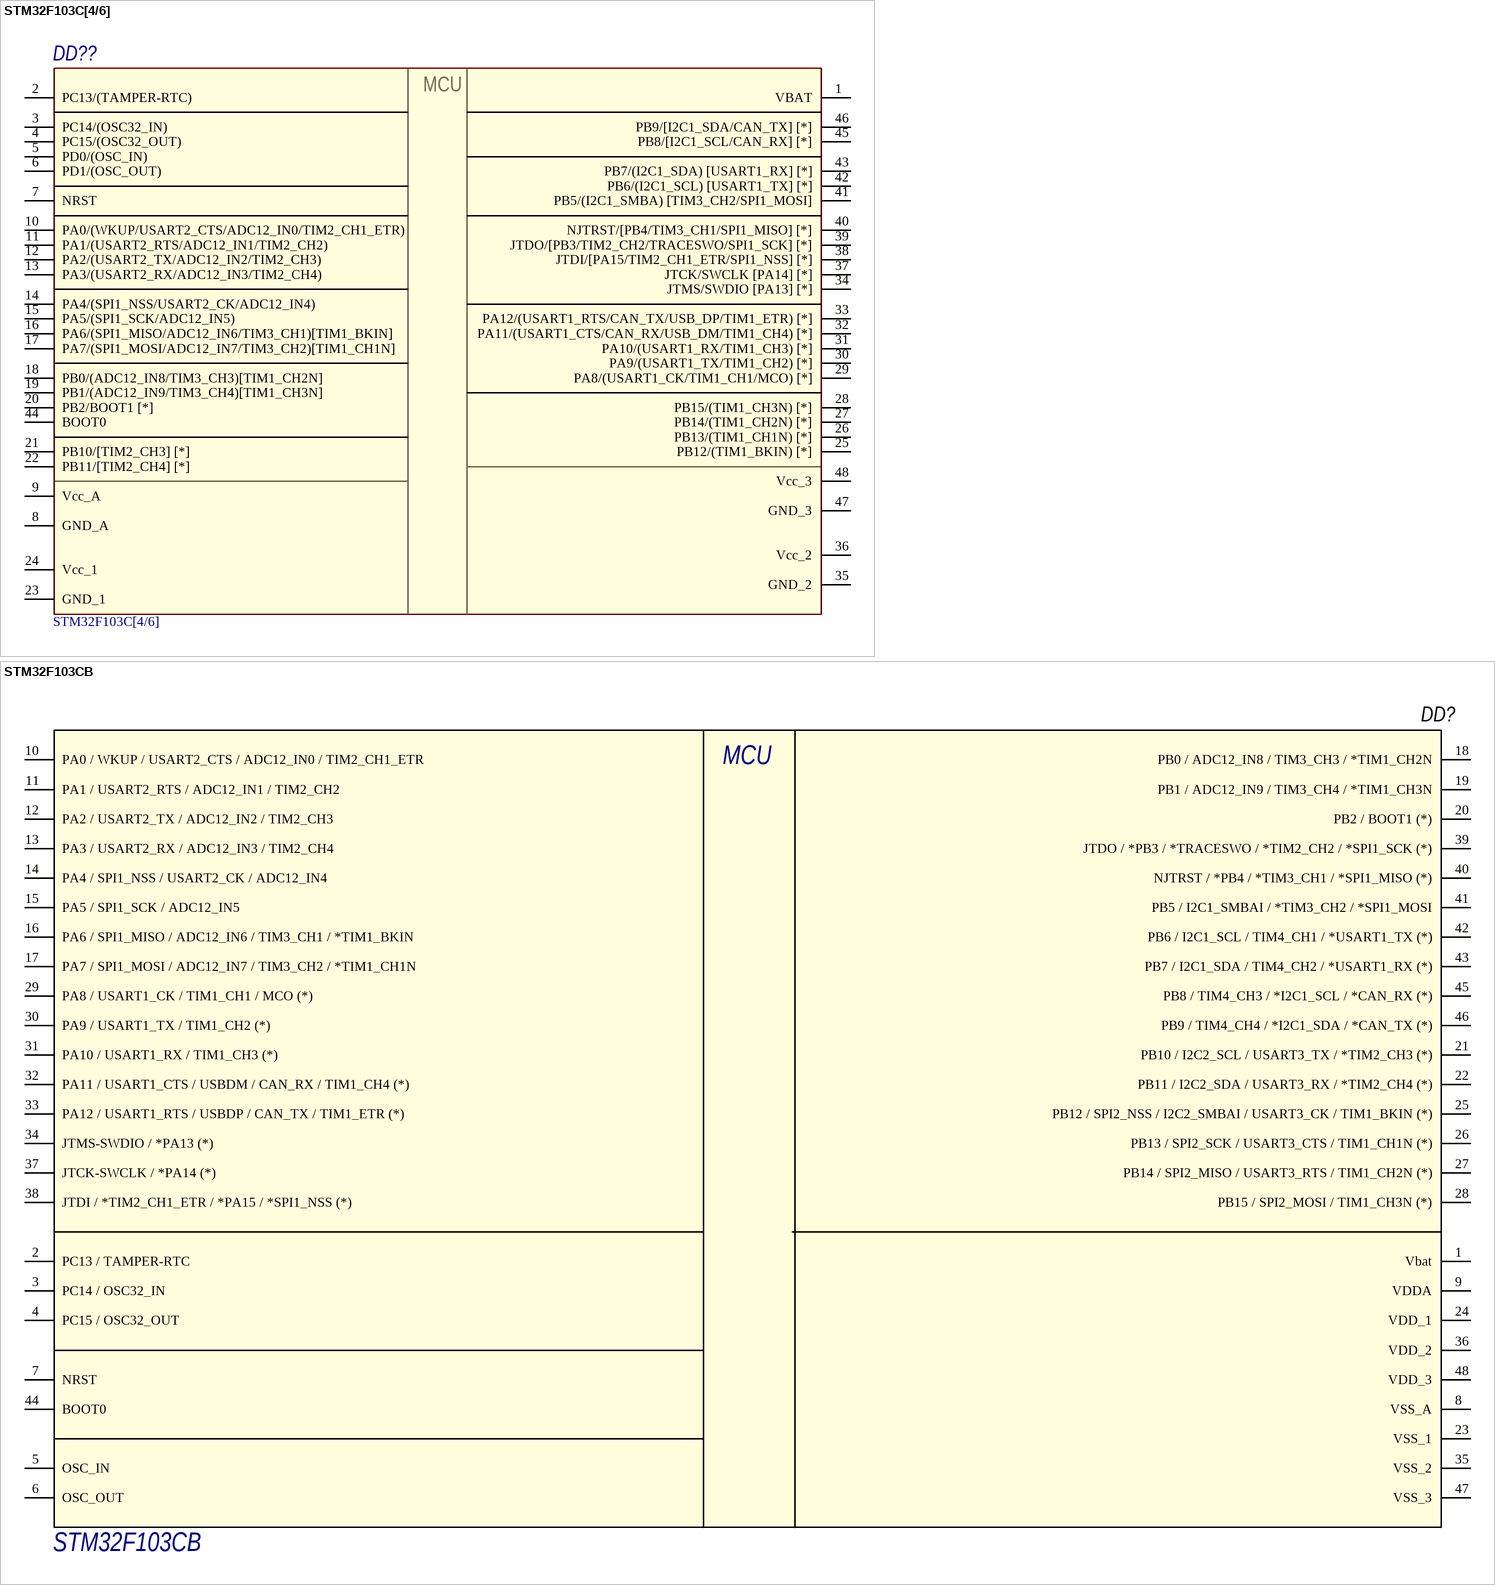
[diagram p28: symbols STM32F103C[4/6] to STM32F103CB]

## STM32F103C[4/6]
designator DD??
Микроконтроллер; Name: STM32F103C[4/6]
footprint LQFP48_H
footprint LQFP48_L (Thin QFP, 48-Leads, Body 7x7mm, Pitch 0.5mm, IPC High Density)
pins: 1 VBAT, 2 PC13/(TAMPER-RTC), 3 PC14/(OSC32_IN), 4 PC15/(OSC32_OUT), 5 PD0/(OSC_IN), 6 PD1/(OSC_OUT), 7 NRST, 8 GND_A, 9 Vcc_A, 10 PA0/(WKUP/USART2_CTS/ADC12_IN0/TIM2_CH1_ETR), 11 PA1/(USART2_RTS/ADC12_IN1/TIM2_CH2), 12 PA2/(USART2_TX/ADC12_IN2/TIM2_CH3), 13 PA3/(USART2_RX/ADC12_IN3/TIM2_CH4), 14 PA4/(SPI1_NSS/USART2_CK/ADC12_IN4), 15 PA5/(SPI1_SCK/ADC12_IN5), 16 PA6/(SPI1_MISO/ADC12_IN6/TIM3_CH1)[TIM1_BKIN], 17 PA7/(SPI1_MOSI/ADC12_IN7/TIM3_CH2)[TIM1_CH1N], 18 PB0/(ADC12_IN8/TIM3_CH3)[TIM1_CH2N], 19 PB1/(ADC12_IN9/TIM3_CH4)[TIM1_CH3N], 20 PB2/BOOT1 [*], 21 PB10/[TIM2_CH3] [*], 22 PB11/[TIM2_CH4] [*], 23 GND_1, 24 Vcc_1, 25 PB12/(TIM1_BKIN) [*], 26 PB13/(TIM1_CH1N) [*], 27 PB14/(TIM1_CH2N) [*], 28 PB15/(TIM1_CH3N) [*], 29 PA8/(USART1_CK/TIM1_CH1/MCO) [*], 30 PA9/(USART1_TX/TIM1_CH2) [*], 31 PA10/(USART1_RX/TIM1_CH3) [*], 32 PA11/(USART1_CTS/CAN_RX/USB_DM/TIM1_CH4) [*], 33 PA12/(USART1_RTS/CAN_TX/USB_DP/TIM1_ETR) [*], 34 JTMS/SWDIO [PA13] [*], 35 GND_2, 36 Vcc_2, 37 JTCK/SWCLK [PA14] [*], 38 JTDI/[PA15/TIM2_CH1_ETR/SPI1_NSS] [*], 39 JTDO/[PB3/TIM2_CH2/TRACESWO/SPI1_SCK] [*], 40 NJTRST/[PB4/TIM3_CH1/SPI1_MISO] [*], 41 PB5/(I2C1_SMBA) [TIM3_CH2/SPI1_MOSI], 42 PB6/(I2C1_SCL) [USART1_TX] [*], 43 PB7/(I2C1_SDA) [USART1_RX] [*], 44 BOOT0, 45 PB8/[I2C1_SCL/CAN_RX] [*], 46 PB9/[I2C1_SDA/CAN_TX] [*], 47 GND_3, 48 Vcc_3
text: MCU

## STM32F103CB
designator DD?
Микроконтроллер; Name: STM32F103CB
footprint LQFP48_M (QFP, 48-Leads, Body 7x7mm, Pitch 0.5mm, IPC Low Density)
footprint LQFP48_H
footprint LQFP48_L (Thin QFP, 48-Leads, Body 7x7mm, Pitch 0.5mm, IPC High Density)
pins: 1 Vbat, 2 PC13 / TAMPER-RTC, 3 PC14 / OSC32_IN, 4 PC15 / OSC32_OUT, 5 OSC_IN, 6 OSC_OUT, 7 NRST, 8 VSS_A, 9 VDDA, 10 PA0 / WKUP / USART2_CTS / ADC12_IN0 / TIM2_CH1_ETR, 11 PA1 / USART2_RTS / ADC12_IN1 / TIM2_CH2, 12 PA2 / USART2_TX / ADC12_IN2 / TIM2_CH3, 13 PA3 / USART2_RX / ADC12_IN3 / TIM2_CH4, 14 PA4 / SPI1_NSS / USART2_CK / ADC12_IN4, 15 PA5 / SPI1_SCK / ADC12_IN5, 16 PA6 / SPI1_MISO / ADC12_IN6 / TIM3_CH1 / *TIM1_BKIN, 17 PA7 / SPI1_MOSI / ADC12_IN7 / TIM3_CH2 / *TIM1_CH1N, 18 PB0 / ADC12_IN8 / TIM3_CH3 / *TIM1_CH2N, 19 PB1 / ADC12_IN9 / TIM3_CH4 / *TIM1_CH3N, 20 PB2 / BOOT1 (*), 21 PB10 / I2C2_SCL / USART3_TX / *TIM2_CH3 (*), 22 PB11 / I2C2_SDA / USART3_RX / *TIM2_CH4 (*), 23 VSS_1, 24 VDD_1, 25 PB12 / SPI2_NSS / I2C2_SMBAI / USART3_CK / TIM1_BKIN (*), 26 PB13 / SPI2_SCK / USART3_CTS / TIM1_CH1N (*), 27 PB14 / SPI2_MISO / USART3_RTS / TIM1_CH2N (*), 28 PB15 / SPI2_MOSI / TIM1_CH3N (*), 29 PA8 / USART1_CK / TIM1_CH1 / MCO (*), 30 PA9 / USART1_TX / TIM1_CH2 (*), 31 PA10 / USART1_RX / TIM1_CH3 (*), 32 PA11 / USART1_CTS / USBDM / CAN_RX / TIM1_CH4 (*), 33 PA12 / USART1_RTS / USBDP / CAN_TX / TIM1_ETR (*), 34 JTMS-SWDIO / *PA13 (*), 35 VSS_2, 36 VDD_2, 37 JTCK-SWCLK / *PA14 (*), 38 JTDI / *TIM2_CH1_ETR / *PA15 / *SPI1_NSS (*), 39 JTDO / *PB3 / *TRACESWO / *TIM2_CH2 / *SPI1_SCK (*), 40 NJTRST / *PB4 / *TIM3_CH1 / *SPI1_MISO (*), 41 PB5 / I2C1_SMBAI / *TIM3_CH2 / *SPI1_MOSI, 42 PB6 / I2C1_SCL / TIM4_CH1 / *USART1_TX (*), 43 PB7 / I2C1_SDA / TIM4_CH2 / *USART1_RX (*), 44 BOOT0, 45 PB8 / TIM4_CH3 / *I2C1_SCL / *CAN_RX (*), 46 PB9 / TIM4_CH4 / *I2C1_SDA / *CAN_TX (*), 47 VSS_3, 48 VDD_3
text: MCU

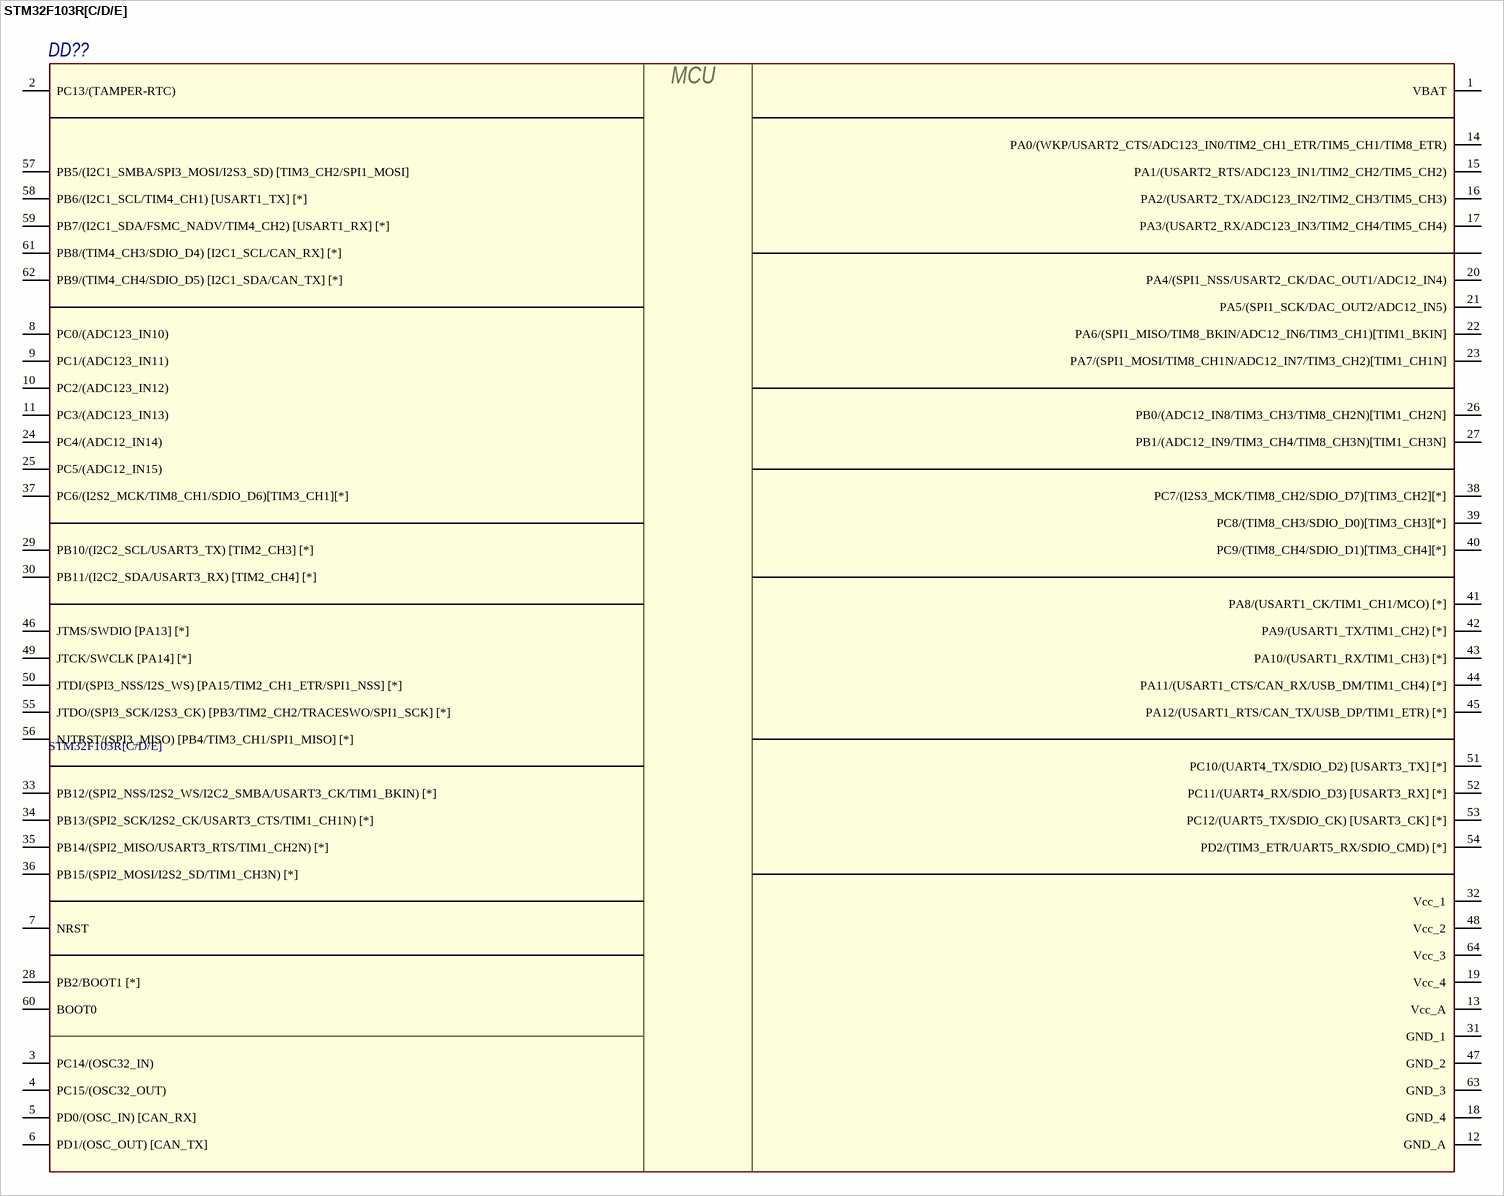
[diagram p29: symbol STM32F103R[C/D/E]]

## STM32F103R[C/D/E]
designator DD??
Микроконтроллер; Name: STM32F103R[C/D/E]
footprint LQFP64_H (64-Pin Low Profile Quad Pack 0.5 mm Pitch, IPC High Density)
footprint LQFP64_L (TSQFP, 64-Leads, Body 10,00x10,00mm, Pitch 0,50mm, IPC Medium Density)
pins: 1 VBAT, 2 PC13/(TAMPER-RTC), 3 PC14/(OSC32_IN), 4 PC15/(OSC32_OUT), 5 PD0/(OSC_IN) [CAN_RX], 6 PD1/(OSC_OUT) [CAN_TX], 7 NRST, 8 PC0/(ADC123_IN10), 9 PC1/(ADC123_IN11), 10 PC2/(ADC123_IN12), 11 PC3/(ADC123_IN13), 12 GND_A, 13 Vcc_A, 14 PA0/(WKP/USART2_CTS/ADC123_IN0/TIM2_CH1_ETR/TIM5_CH1/TIM8_ETR), 15 PA1/(USART2_RTS/ADC123_IN1/TIM2_CH2/TIM5_CH2), 16 PA2/(USART2_TX/ADC123_IN2/TIM2_CH3/TIM5_CH3), 17 PA3/(USART2_RX/ADC123_IN3/TIM2_CH4/TIM5_CH4), 18 GND_4, 19 Vcc_4, 20 PA4/(SPI1_NSS/USART2_CK/DAC_OUT1/ADC12_IN4), 21 PA5/(SPI1_SCK/DAC_OUT2/ADC12_IN5), 22 PA6/(SPI1_MISO/TIM8_BKIN/ADC12_IN6/TIM3_CH1)[TIM1_BKIN], 23 PA7/(SPI1_MOSI/TIM8_CH1N/ADC12_IN7/TIM3_CH2)[TIM1_CH1N], 24 PC4/(ADC12_IN14), 25 PC5/(ADC12_IN15), 26 PB0/(ADC12_IN8/TIM3_CH3/TIM8_CH2N)[TIM1_CH2N], 27 PB1/(ADC12_IN9/TIM3_CH4/TIM8_CH3N)[TIM1_CH3N], 28 PB2/BOOT1 [*], 29 PB10/(I2C2_SCL/USART3_TX) [TIM2_CH3] [*], 30 PB11/(I2C2_SDA/USART3_RX) [TIM2_CH4] [*], 31 GND_1, 32 Vcc_1, 33 PB12/(SPI2_NSS/I2S2_WS/I2C2_SMBA/USART3_CK/TIM1_BKIN) [*], 34 PB13/(SPI2_SCK/I2S2_CK/USART3_CTS/TIM1_CH1N) [*], 35 PB14/(SPI2_MISO/USART3_RTS/TIM1_CH2N) [*], 36 PB15/(SPI2_MOSI/I2S2_SD/TIM1_CH3N) [*], 37 PC6/(I2S2_MCK/TIM8_CH1/SDIO_D6)[TIM3_CH1][*], 38 PC7/(I2S3_MCK/TIM8_CH2/SDIO_D7)[TIM3_CH2][*], 39 PC8/(TIM8_CH3/SDIO_D0)[TIM3_CH3][*], 40 PC9/(TIM8_CH4/SDIO_D1)[TIM3_CH4][*], 41 PA8/(USART1_CK/TIM1_CH1/MCO) [*], 42 PA9/(USART1_TX/TIM1_CH2) [*], 43 PA10/(USART1_RX/TIM1_CH3) [*], 44 PA11/(USART1_CTS/CAN_RX/USB_DM/TIM1_CH4) [*], 45 PA12/(USART1_RTS/CAN_TX/USB_DP/TIM1_ETR) [*], 46 JTMS/SWDIO [PA13] [*], 47 GND_2, 48 Vcc_2, 49 JTCK/SWCLK [PA14] [*], 50 JTDI/(SPI3_NSS/I2S_WS) [PA15/TIM2_CH1_ETR/SPI1_NSS] [*], 51 PC10/(UART4_TX/SDIO_D2) [USART3_TX] [*], 52 PC11/(UART4_RX/SDIO_D3) [USART3_RX] [*], 53 PC12/(UART5_TX/SDIO_CK) [USART3_CK] [*], 54 PD2/(TIM3_ETR/UART5_RX/SDIO_CMD) [*], 55 JTDO/(SPI3_SCK/I2S3_CK) [PB3/TIM2_CH2/TRACESWO/SPI1_SCK] [*], 56 NJTRST/(SPI3_MISO) [PB4/TIM3_CH1/SPI1_MISO] [*], 57 PB5/(I2C1_SMBA/SPI3_MOSI/I2S3_SD) [TIM3_CH2/SPI1_MOSI], 58 PB6/(I2C1_SCL/TIM4_CH1) [USART1_TX] [*], 59 PB7/(I2C1_SDA/FSMC_NADV/TIM4_CH2) [USART1_RX] [*], 60 BOOT0, 61 PB8/(TIM4_CH3/SDIO_D4) [I2C1_SCL/CAN_RX] [*], 62 PB9/(TIM4_CH4/SDIO_D5) [I2C1_SDA/CAN_TX] [*], 63 GND_3, 64 Vcc_3
text: MCU

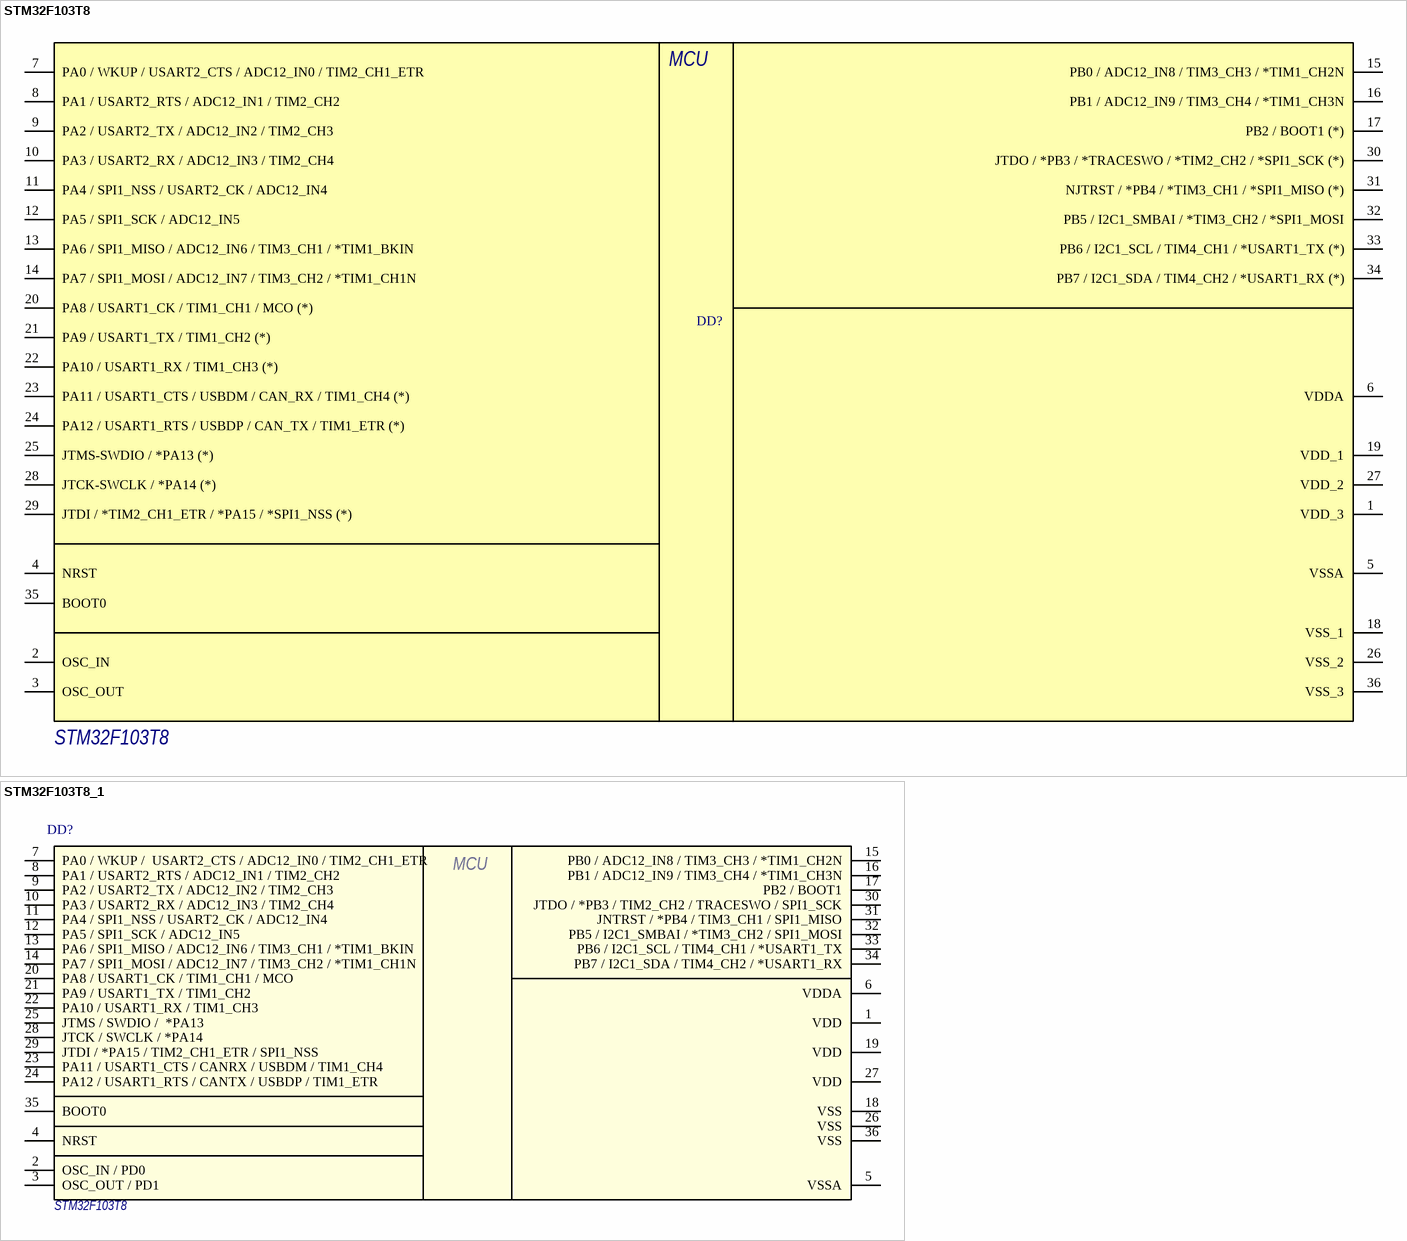
[diagram p30: symbols STM32F103T8 to STM32F103T8_1]

## STM32F103T8
designator DD?
Микроконтроллер; Name: STM32F103T8
footprint VFQFPN36_A
footprint VFQFPN36_H
pins: 1 VDD_3, 2 OSC_IN, 3 OSC_OUT, 4 NRST, 5 VSSA, 6 VDDA, 7 PA0 / WKUP / USART2_CTS / ADC12_IN0 / TIM2_CH1_ETR, 8 PA1 / USART2_RTS / ADC12_IN1 / TIM2_CH2, 9 PA2 / USART2_TX / ADC12_IN2 / TIM2_CH3, 10 PA3 / USART2_RX / ADC12_IN3 / TIM2_CH4, 11 PA4 / SPI1_NSS / USART2_CK / ADC12_IN4, 12 PA5 / SPI1_SCK / ADC12_IN5, 13 PA6 / SPI1_MISO / ADC12_IN6 / TIM3_CH1 / *TIM1_BKIN, 14 PA7 / SPI1_MOSI / ADC12_IN7 / TIM3_CH2 / *TIM1_CH1N, 15 PB0 / ADC12_IN8 / TIM3_CH3 / *TIM1_CH2N, 16 PB1 / ADC12_IN9 / TIM3_CH4 / *TIM1_CH3N, 17 PB2 / BOOT1 (*), 18 VSS_1, 19 VDD_1, 20 PA8 / USART1_CK / TIM1_CH1 / MCO (*), 21 PA9 / USART1_TX / TIM1_CH2 (*), 22 PA10 / USART1_RX / TIM1_CH3 (*), 23 PA11 / USART1_CTS / USBDM / CAN_RX / TIM1_CH4 (*), 24 PA12 / USART1_RTS / USBDP / CAN_TX / TIM1_ETR (*), 25 JTMS-SWDIO / *PA13 (*), 26 VSS_2, 27 VDD_2, 28 JTCK-SWCLK / *PA14 (*), 29 JTDI / *TIM2_CH1_ETR / *PA15 / *SPI1_NSS (*), 30 JTDO / *PB3 / *TRACESWO / *TIM2_CH2 / *SPI1_SCK (*), 31 NJTRST / *PB4 / *TIM3_CH1 / *SPI1_MISO (*), 32 PB5 / I2C1_SMBAI / *TIM3_CH2 / *SPI1_MOSI, 33 PB6 / I2C1_SCL / TIM4_CH1 / *USART1_TX (*), 34 PB7 / I2C1_SDA / TIM4_CH2 / *USART1_RX (*), 35 BOOT0, 36 VSS_3
text: MCU

## STM32F103T8_1
designator DD?, comment STM32F103T8
Микроконтроллер Cortex-M3; Name: STM32F103T8
footprint VFQFPN36_A
footprint VFQFPN36_H
pins: 1 VDD, 2 OSC_IN / PD0, 3 OSC_OUT / PD1, 4 NRST, 5 VSSA, 6 VDDA, 7 PA0 / WKUP /  USART2_CTS / ADC12_IN0 / TIM2_CH1_ETR, 8 PA1 / USART2_RTS / ADC12_IN1 / TIM2_CH2, 9 PA2 / USART2_TX / ADC12_IN2 / TIM2_CH3, 10 PA3 / USART2_RX / ADC12_IN3 / TIM2_CH4, 11 PA4 / SPI1_NSS / USART2_CK / ADC12_IN4, 12 PA5 / SPI1_SCK / ADC12_IN5, 13 PA6 / SPI1_MISO / ADC12_IN6 / TIM3_CH1 / *TIM1_BKIN, 14 PA7 / SPI1_MOSI / ADC12_IN7 / TIM3_CH2 / *TIM1_CH1N, 15 PB0 / ADC12_IN8 / TIM3_CH3 / *TIM1_CH2N, 16 PB1 / ADC12_IN9 / TIM3_CH4 / *TIM1_CH3N, 17 PB2 / BOOT1, 18 VSS, 19 VDD, 20 PA8 / USART1_CK / TIM1_CH1 / MCO, 21 PA9 / USART1_TX / TIM1_CH2, 22 PA10 / USART1_RX / TIM1_CH3, 23 PA11 / USART1_CTS / CANRX / USBDM / TIM1_CH4, 24 PA12 / USART1_RTS / CANTX / USBDP / TIM1_ETR, 25 JTMS / SWDIO /  *PA13, 26 VSS, 27 VDD, 28 JTCK / SWCLK / *PA14, 29 JTDI / *PA15 / TIM2_CH1_ETR / SPI1_NSS, 30 JTDO / *PB3 / TIM2_CH2 / TRACESWO / SPI1_SCK, 31 JNTRST / *PB4 / TIM3_CH1 / SPI1_MISO, 32 PB5 / I2C1_SMBAI / *TIM3_CH2 / SPI1_MOSI, 33 PB6 / I2C1_SCL / TIM4_CH1 / *USART1_TX, 34 PB7 / I2C1_SDA / TIM4_CH2 / *USART1_RX, 35 BOOT0, 36 VSS
text: MCU

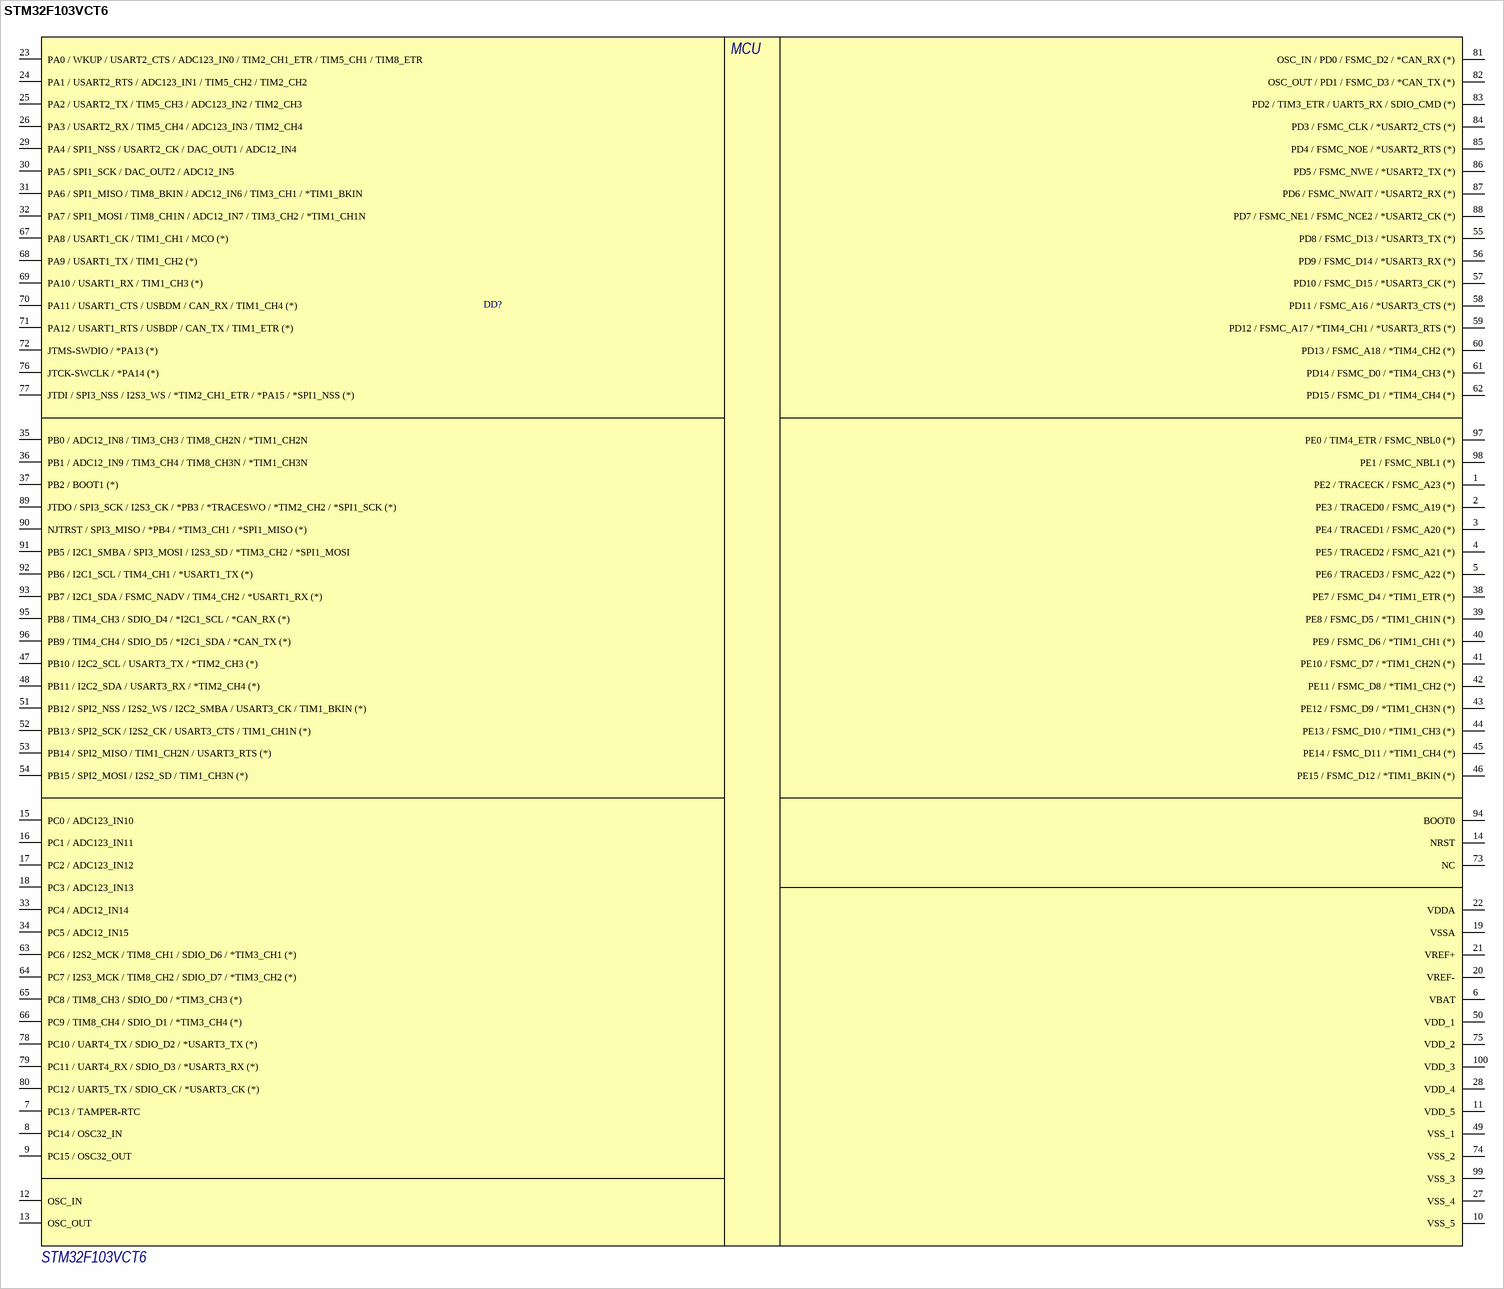
[diagram p31: symbol STM32F103VCT6]

## STM32F103VCT6
designator DD?
Микроконтроллер; Name: STM32F103VCT6
footprint LQPF100_A
footprint LQPF100_H
pins: 1 PE2 / TRACECK / FSMC_A23 (*), 2 PE3 / TRACED0 / FSMC_A19 (*), 3 PE4 / TRACED1 / FSMC_A20 (*), 4 PE5 / TRACED2 / FSMC_A21 (*), 5 PE6 / TRACED3 / FSMC_A22 (*), 6 VBAT, 7 PC13 / TAMPER-RTC, 8 PC14 / OSC32_IN, 9 PC15 / OSC32_OUT, 10 VSS_5, 11 VDD_5, 12 OSC_IN, 13 OSC_OUT, 14 NRST, 15 PC0 / ADC123_IN10, 16 PC1 / ADC123_IN11, 17 PC2 / ADC123_IN12, 18 PC3 / ADC123_IN13, 19 VSSA, 20 VREF-, 21 VREF+, 22 VDDA, 23 PA0 / WKUP / USART2_CTS / ADC123_IN0 / TIM2_CH1_ETR / TIM5_CH1 / TIM8_ETR, 24 PA1 / USART2_RTS / ADC123_IN1 / TIM5_CH2 / TIM2_CH2, 25 PA2 / USART2_TX / TIM5_CH3 / ADC123_IN2 / TIM2_CH3, 26 PA3 / USART2_RX / TIM5_CH4 / ADC123_IN3 / TIM2_CH4, 27 VSS_4, 28 VDD_4, 29 PA4 / SPI1_NSS / USART2_CK / DAC_OUT1 / ADC12_IN4, 30 PA5 / SPI1_SCK / DAC_OUT2 / ADC12_IN5, 31 PA6 / SPI1_MISO / TIM8_BKIN / ADC12_IN6 / TIM3_CH1 / *TIM1_BKIN, 32 PA7 / SPI1_MOSI / TIM8_CH1N / ADC12_IN7 / TIM3_CH2 / *TIM1_CH1N, 33 PC4 / ADC12_IN14, 34 PC5 / ADC12_IN15, 35 PB0 / ADC12_IN8 / TIM3_CH3 / TIM8_CH2N / *TIM1_CH2N, 36 PB1 / ADC12_IN9 / TIM3_CH4 / TIM8_CH3N / *TIM1_CH3N, 37 PB2 / BOOT1 (*), 38 PE7 / FSMC_D4 / *TIM1_ETR (*), 39 PE8 / FSMC_D5 / *TIM1_CH1N (*), 40 PE9 / FSMC_D6 / *TIM1_CH1 (*), 41 PE10 / FSMC_D7 / *TIM1_CH2N (*), 42 PE11 / FSMC_D8 / *TIM1_CH2 (*), 43 PE12 / FSMC_D9 / *TIM1_CH3N (*), 44 PE13 / FSMC_D10 / *TIM1_CH3 (*), 45 PE14 / FSMC_D11 / *TIM1_CH4 (*), 46 PE15 / FSMC_D12 / *TIM1_BKIN (*), 47 PB10 / I2C2_SCL / USART3_TX / *TIM2_CH3 (*), 48 PB11 / I2C2_SDA / USART3_RX / *TIM2_CH4 (*), 49 VSS_1, 50 VDD_1, 51 PB12 / SPI2_NSS / I2S2_WS / I2C2_SMBA / USART3_CK / TIM1_BKIN (*), 52 PB13 / SPI2_SCK / I2S2_CK / USART3_CTS / TIM1_CH1N (*), 53 PB14 / SPI2_MISO / TIM1_CH2N / USART3_RTS (*), 54 PB15 / SPI2_MOSI / I2S2_SD / TIM1_CH3N (*), 55 PD8 / FSMC_D13 / *USART3_TX (*), 56 PD9 / FSMC_D14 / *USART3_RX (*), 57 PD10 / FSMC_D15 / *USART3_CK (*), 58 PD11 / FSMC_A16 / *USART3_CTS (*), 59 PD12 / FSMC_A17 / *TIM4_CH1 / *USART3_RTS (*), 60 PD13 / FSMC_A18 / *TIM4_CH2 (*), 61 PD14 / FSMC_D0 / *TIM4_CH3 (*), 62 PD15 / FSMC_D1 / *TIM4_CH4 (*), 63 PC6 / I2S2_MCK / TIM8_CH1 / SDIO_D6 / *TIM3_CH1 (*), 64 PC7 / I2S3_MCK / TIM8_CH2 / SDIO_D7 / *TIM3_CH2 (*), 65 PC8 / TIM8_CH3 / SDIO_D0 / *TIM3_CH3 (*), 66 PC9 / TIM8_CH4 / SDIO_D1 / *TIM3_CH4 (*), 67 PA8 / USART1_CK / TIM1_CH1 / MCO (*), 68 PA9 / USART1_TX / TIM1_CH2 (*), 69 PA10 / USART1_RX / TIM1_CH3 (*), 70 PA11 / USART1_CTS / USBDM / CAN_RX / TIM1_CH4 (*), 71 PA12 / USART1_RTS / USBDP / CAN_TX / TIM1_ETR (*), 72 JTMS-SWDIO / *PA13 (*), 73 NC, 74 VSS_2, 75 VDD_2, 76 JTCK-SWCLK / *PA14 (*), 77 JTDI / SPI3_NSS / I2S3_WS / *TIM2_CH1_ETR / *PA15 / *SPI1_NSS (*), 78 PC10 / UART4_TX / SDIO_D2 / *USART3_TX (*), 79 PC11 / UART4_RX / SDIO_D3 / *USART3_RX (*), 80 PC12 / UART5_TX / SDIO_CK / *USART3_CK (*), 81 OSC_IN / PD0 / FSMC_D2 / *CAN_RX (*), 82 OSC_OUT / PD1 / FSMC_D3 / *CAN_TX (*), 83 PD2 / TIM3_ETR / UART5_RX / SDIO_CMD (*), 84 PD3 / FSMC_CLK / *USART2_CTS (*), 85 PD4 / FSMC_NOE / *USART2_RTS (*), 86 PD5 / FSMC_NWE / *USART2_TX (*), 87 PD6 / FSMC_NWAIT / *USART2_RX (*), 88 PD7 / FSMC_NE1 / FSMC_NCE2 / *USART2_CK (*), 89 JTDO / SPI3_SCK / I2S3_CK / *PB3 / *TRACESWO / *TIM2_CH2 / *SPI1_SCK (*), 90 NJTRST / SPI3_MISO / *PB4 / *TIM3_CH1 / *SPI1_MISO (*), 91 PB5 / I2C1_SMBA / SPI3_MOSI / I2S3_SD / *TIM3_CH2 / *SPI1_MOSI, 92 PB6 / I2C1_SCL / TIM4_CH1 / *USART1_TX (*), 93 PB7 / I2C1_SDA / FSMC_NADV / TIM4_CH2 / *USART1_RX (*), 94 BOOT0, 95 PB8 / TIM4_CH3 / SDIO_D4 / *I2C1_SCL / *CAN_RX (*), 96 PB9 / TIM4_CH4 / SDIO_D5 / *I2C1_SDA / *CAN_TX (*), 97 PE0 / TIM4_ETR / FSMC_NBL0 (*), 98 PE1 / FSMC_NBL1 (*), 99 VSS_3, 100 VDD_3
text: MCU

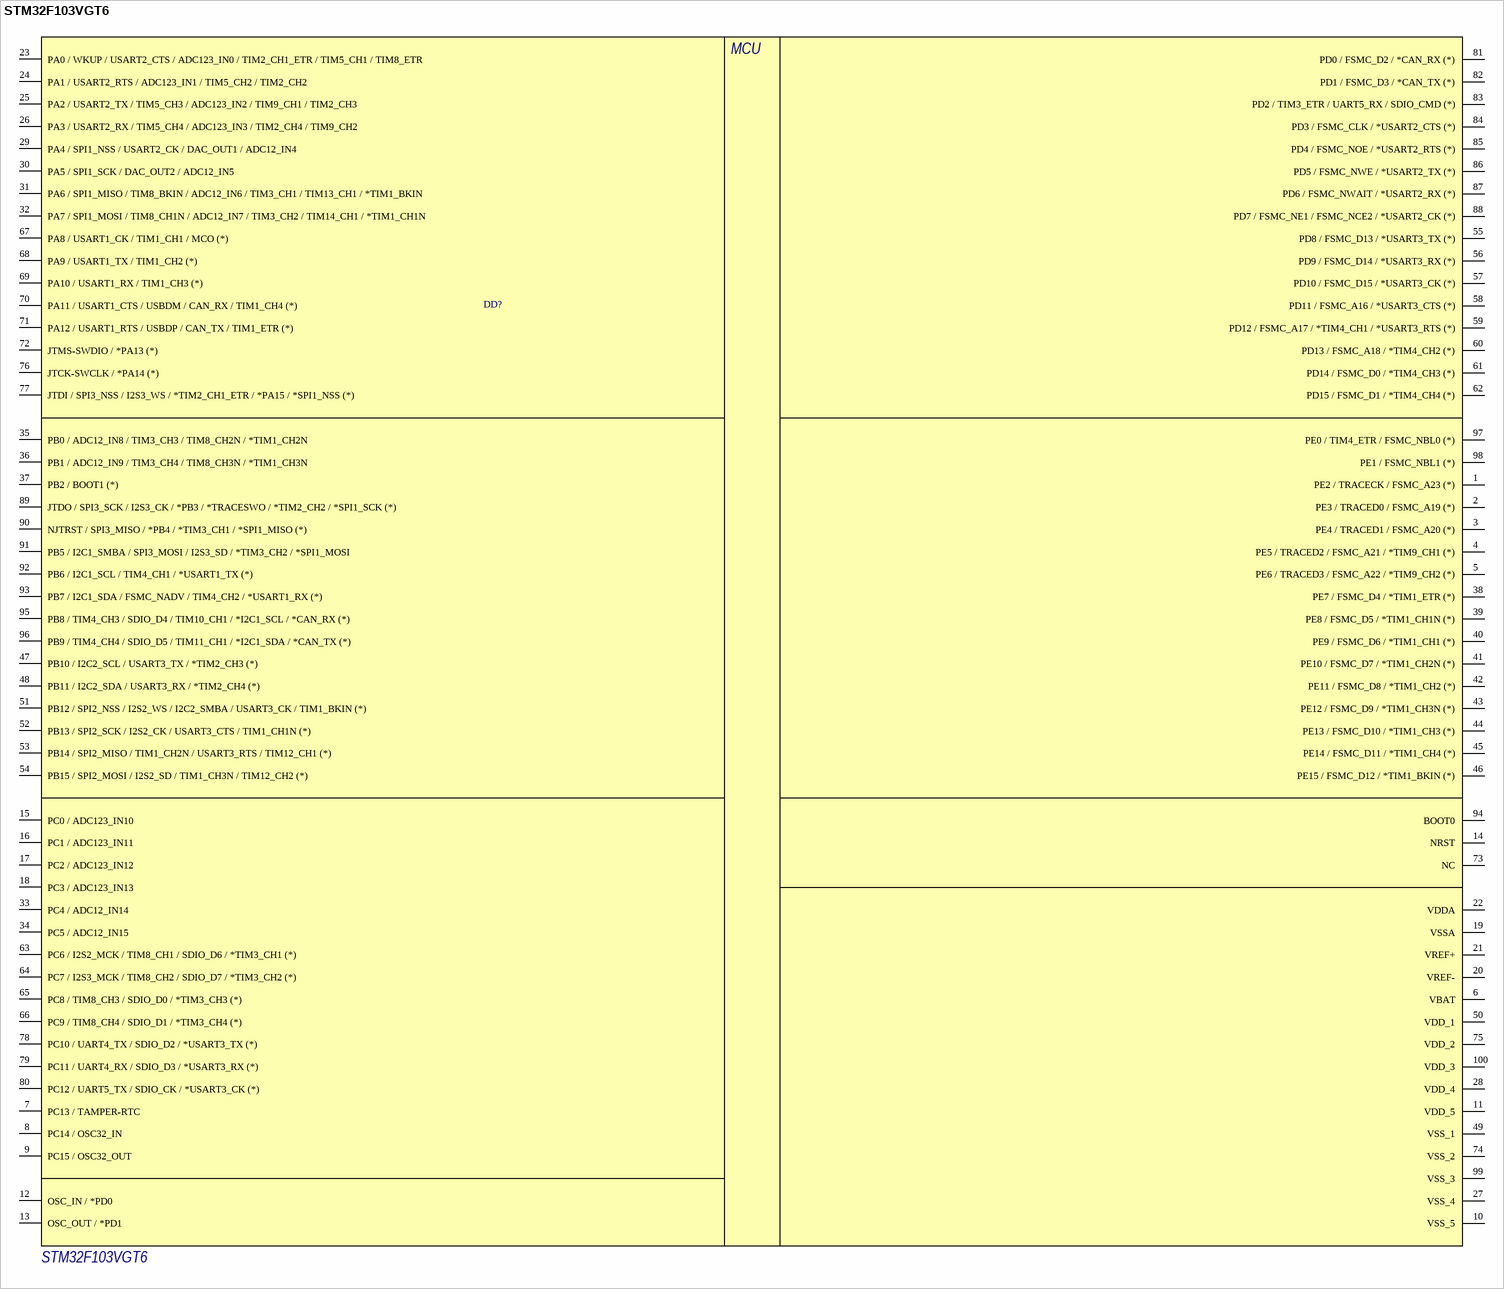
[diagram p32: symbol STM32F103VGT6]

## STM32F103VGT6
designator DD?
Микроконтроллер; Name: STM32F103VGT6
footprint LQPF100_A
footprint LQPF100_H
pins: 1 PE2 / TRACECK / FSMC_A23 (*), 2 PE3 / TRACED0 / FSMC_A19 (*), 3 PE4 / TRACED1 / FSMC_A20 (*), 4 PE5 / TRACED2 / FSMC_A21 / *TIM9_CH1 (*), 5 PE6 / TRACED3 / FSMC_A22 / *TIM9_CH2 (*), 6 VBAT, 7 PC13 / TAMPER-RTC, 8 PC14 / OSC32_IN, 9 PC15 / OSC32_OUT, 10 VSS_5, 11 VDD_5, 12 OSC_IN / *PD0, 13 OSC_OUT / *PD1, 14 NRST, 15 PC0 / ADC123_IN10, 16 PC1 / ADC123_IN11, 17 PC2 / ADC123_IN12, 18 PC3 / ADC123_IN13, 19 VSSA, 20 VREF-, 21 VREF+, 22 VDDA, 23 PA0 / WKUP / USART2_CTS / ADC123_IN0 / TIM2_CH1_ETR / TIM5_CH1 / TIM8_ETR, 24 PA1 / USART2_RTS / ADC123_IN1 / TIM5_CH2 / TIM2_CH2, 25 PA2 / USART2_TX / TIM5_CH3 / ADC123_IN2 / TIM9_CH1 / TIM2_CH3, 26 PA3 / USART2_RX / TIM5_CH4 / ADC123_IN3 / TIM2_CH4 / TIM9_CH2, 27 VSS_4, 28 VDD_4, 29 PA4 / SPI1_NSS / USART2_CK / DAC_OUT1 / ADC12_IN4, 30 PA5 / SPI1_SCK / DAC_OUT2 / ADC12_IN5, 31 PA6 / SPI1_MISO / TIM8_BKIN / ADC12_IN6 / TIM3_CH1 / TIM13_CH1 / *TIM1_BKIN, 32 PA7 / SPI1_MOSI / TIM8_CH1N / ADC12_IN7 / TIM3_CH2 / TIM14_CH1 / *TIM1_CH1N, 33 PC4 / ADC12_IN14, 34 PC5 / ADC12_IN15, 35 PB0 / ADC12_IN8 / TIM3_CH3 / TIM8_CH2N / *TIM1_CH2N, 36 PB1 / ADC12_IN9 / TIM3_CH4 / TIM8_CH3N / *TIM1_CH3N, 37 PB2 / BOOT1 (*), 38 PE7 / FSMC_D4 / *TIM1_ETR (*), 39 PE8 / FSMC_D5 / *TIM1_CH1N (*), 40 PE9 / FSMC_D6 / *TIM1_CH1 (*), 41 PE10 / FSMC_D7 / *TIM1_CH2N (*), 42 PE11 / FSMC_D8 / *TIM1_CH2 (*), 43 PE12 / FSMC_D9 / *TIM1_CH3N (*), 44 PE13 / FSMC_D10 / *TIM1_CH3 (*), 45 PE14 / FSMC_D11 / *TIM1_CH4 (*), 46 PE15 / FSMC_D12 / *TIM1_BKIN (*), 47 PB10 / I2C2_SCL / USART3_TX / *TIM2_CH3 (*), 48 PB11 / I2C2_SDA / USART3_RX / *TIM2_CH4 (*), 49 VSS_1, 50 VDD_1, 51 PB12 / SPI2_NSS / I2S2_WS / I2C2_SMBA / USART3_CK / TIM1_BKIN (*), 52 PB13 / SPI2_SCK / I2S2_CK / USART3_CTS / TIM1_CH1N (*), 53 PB14 / SPI2_MISO / TIM1_CH2N / USART3_RTS / TIM12_CH1 (*), 54 PB15 / SPI2_MOSI / I2S2_SD / TIM1_CH3N / TIM12_CH2 (*), 55 PD8 / FSMC_D13 / *USART3_TX (*), 56 PD9 / FSMC_D14 / *USART3_RX (*), 57 PD10 / FSMC_D15 / *USART3_CK (*), 58 PD11 / FSMC_A16 / *USART3_CTS (*), 59 PD12 / FSMC_A17 / *TIM4_CH1 / *USART3_RTS (*), 60 PD13 / FSMC_A18 / *TIM4_CH2 (*), 61 PD14 / FSMC_D0 / *TIM4_CH3 (*), 62 PD15 / FSMC_D1 / *TIM4_CH4 (*), 63 PC6 / I2S2_MCK / TIM8_CH1 / SDIO_D6 / *TIM3_CH1 (*), 64 PC7 / I2S3_MCK / TIM8_CH2 / SDIO_D7 / *TIM3_CH2 (*), 65 PC8 / TIM8_CH3 / SDIO_D0 / *TIM3_CH3 (*), 66 PC9 / TIM8_CH4 / SDIO_D1 / *TIM3_CH4 (*), 67 PA8 / USART1_CK / TIM1_CH1 / MCO (*), 68 PA9 / USART1_TX / TIM1_CH2 (*), 69 PA10 / USART1_RX / TIM1_CH3 (*), 70 PA11 / USART1_CTS / USBDM / CAN_RX / TIM1_CH4 (*), 71 PA12 / USART1_RTS / USBDP / CAN_TX / TIM1_ETR (*), 72 JTMS-SWDIO / *PA13 (*), 73 NC, 74 VSS_2, 75 VDD_2, 76 JTCK-SWCLK / *PA14 (*), 77 JTDI / SPI3_NSS / I2S3_WS / *TIM2_CH1_ETR / *PA15 / *SPI1_NSS (*), 78 PC10 / UART4_TX / SDIO_D2 / *USART3_TX (*), 79 PC11 / UART4_RX / SDIO_D3 / *USART3_RX (*), 80 PC12 / UART5_TX / SDIO_CK / *USART3_CK (*), 81 PD0 / FSMC_D2 / *CAN_RX (*), 82 PD1 / FSMC_D3 / *CAN_TX (*), 83 PD2 / TIM3_ETR / UART5_RX / SDIO_CMD (*), 84 PD3 / FSMC_CLK / *USART2_CTS (*), 85 PD4 / FSMC_NOE / *USART2_RTS (*), 86 PD5 / FSMC_NWE / *USART2_TX (*), 87 PD6 / FSMC_NWAIT / *USART2_RX (*), 88 PD7 / FSMC_NE1 / FSMC_NCE2 / *USART2_CK (*), 89 JTDO / SPI3_SCK / I2S3_CK / *PB3 / *TRACESWO / *TIM2_CH2 / *SPI1_SCK (*), 90 NJTRST / SPI3_MISO / *PB4 / *TIM3_CH1 / *SPI1_MISO (*), 91 PB5 / I2C1_SMBA / SPI3_MOSI / I2S3_SD / *TIM3_CH2 / *SPI1_MOSI, 92 PB6 / I2C1_SCL / TIM4_CH1 / *USART1_TX (*), 93 PB7 / I2C1_SDA / FSMC_NADV / TIM4_CH2 / *USART1_RX (*), 94 BOOT0, 95 PB8 / TIM4_CH3 / SDIO_D4 / TIM10_CH1 / *I2C1_SCL / *CAN_RX (*), 96 PB9 / TIM4_CH4 / SDIO_D5 / TIM11_CH1 / *I2C1_SDA / *CAN_TX (*), 97 PE0 / TIM4_ETR / FSMC_NBL0 (*), 98 PE1 / FSMC_NBL1 (*), 99 VSS_3, 100 VDD_3
text: MCU

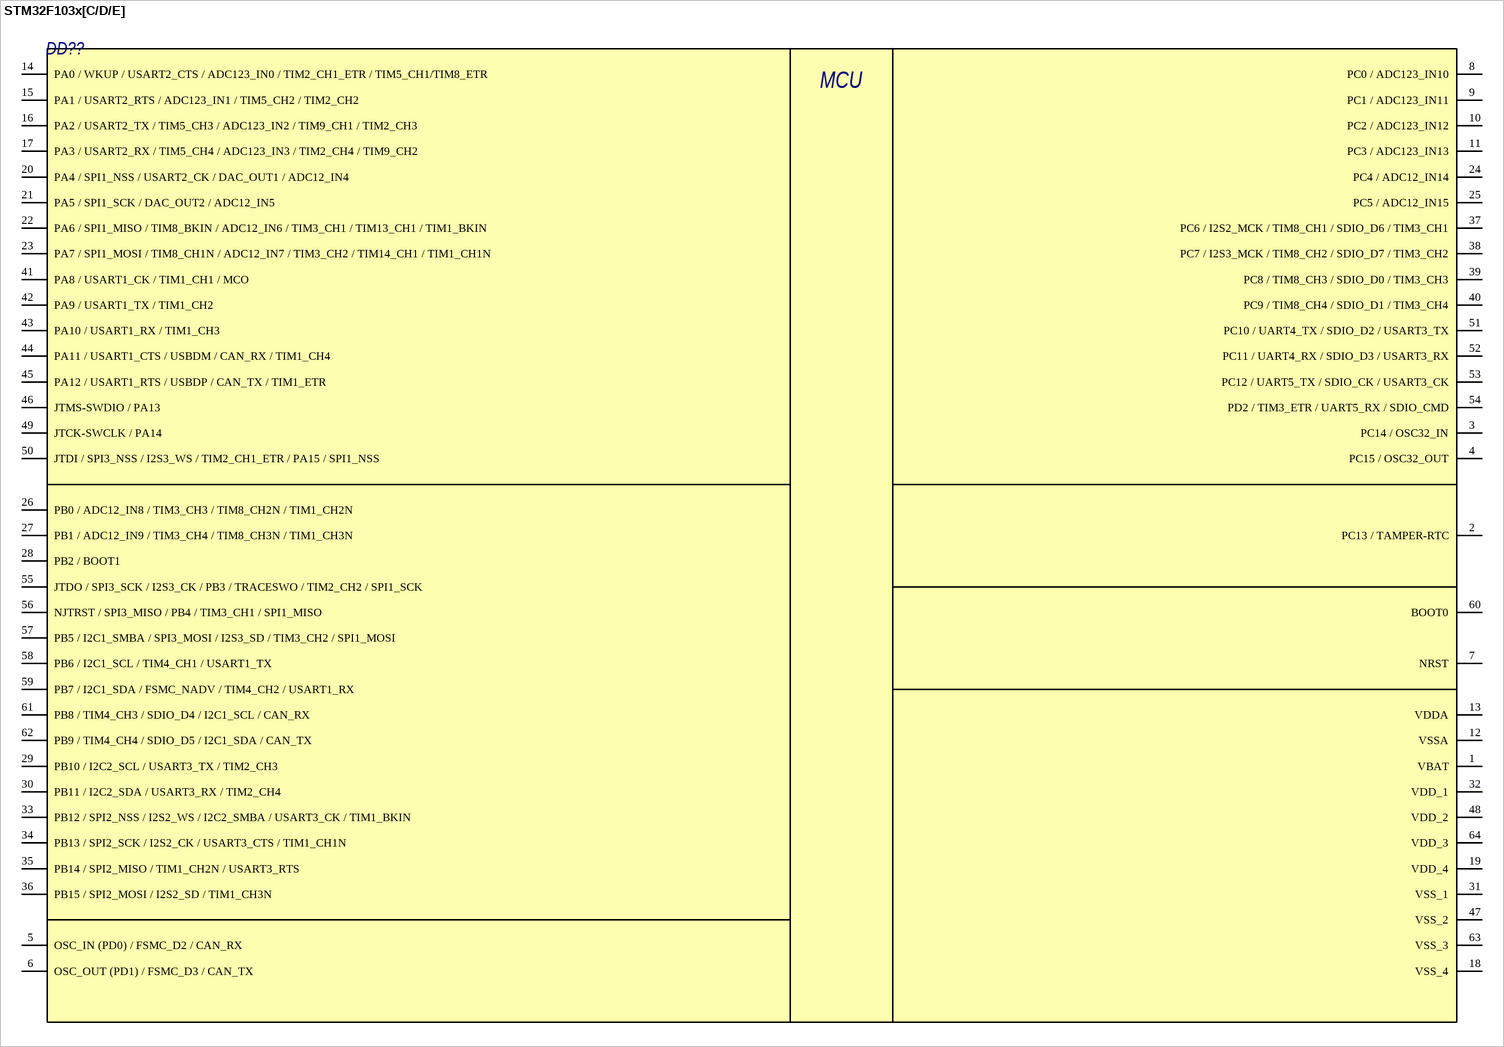
[diagram p33: symbol STM32F103x[C/D/E]]

## STM32F103x[C/D/E]
designator DD??
Микроконтроллер 64-pin; Name: STM32F103x[C/D/E]
footprint LQFP64_H (64-Pin Low Profile Quad Pack 0.5 mm Pitch, IPC High Density)
footprint LQFP64_L (TSQFP, 64-Leads, Body 10,00x10,00mm, Pitch 0,50mm, IPC Medium Density)
pins: 1 VBAT, 2 PC13 / TAMPER-RTC, 3 PC14 / OSC32_IN, 4 PC15 / OSC32_OUT, 5 OSC_IN (PD0) / FSMC_D2 / CAN_RX, 6 OSC_OUT (PD1) / FSMC_D3 / CAN_TX, 7 NRST, 8 PC0 / ADC123_IN10, 9 PC1 / ADC123_IN11, 10 PC2 / ADC123_IN12, 11 PC3 / ADC123_IN13, 12 VSSA, 13 VDDA, 14 PA0 / WKUP / USART2_CTS / ADC123_IN0 / TIM2_CH1_ETR / TIM5_CH1/TIM8_ETR, 15 PA1 / USART2_RTS / ADC123_IN1 / TIM5_CH2 / TIM2_CH2, 16 PA2 / USART2_TX / TIM5_CH3 / ADC123_IN2 / TIM9_CH1 / TIM2_CH3, 17 PA3 / USART2_RX / TIM5_CH4 / ADC123_IN3 / TIM2_CH4 / TIM9_CH2, 18 VSS_4, 19 VDD_4, 20 PA4 / SPI1_NSS / USART2_CK / DAC_OUT1 / ADC12_IN4, 21 PA5 / SPI1_SCK / DAC_OUT2 / ADC12_IN5, 22 PA6 / SPI1_MISO / TIM8_BKIN / ADC12_IN6 / TIM3_CH1 / TIM13_CH1 / TIM1_BKIN, 23 PA7 / SPI1_MOSI / TIM8_CH1N / ADC12_IN7 / TIM3_CH2 / TIM14_CH1 / TIM1_CH1N, 24 PC4 / ADC12_IN14, 25 PC5 / ADC12_IN15, 26 PB0 / ADC12_IN8 / TIM3_CH3 / TIM8_CH2N / TIM1_CH2N, 27 PB1 / ADC12_IN9 / TIM3_CH4 / TIM8_CH3N / TIM1_CH3N, 28 PB2 / BOOT1, 29 PB10 / I2C2_SCL / USART3_TX / TIM2_CH3, 30 PB11 / I2C2_SDA / USART3_RX / TIM2_CH4, 31 VSS_1, 32 VDD_1, 33 PB12 / SPI2_NSS / I2S2_WS / I2C2_SMBA / USART3_CK / TIM1_BKIN, 34 PB13 / SPI2_SCK / I2S2_CK / USART3_CTS / TIM1_CH1N, 35 PB14 / SPI2_MISO / TIM1_CH2N / USART3_RTS, 36 PB15 / SPI2_MOSI / I2S2_SD / TIM1_CH3N , 37 PC6 / I2S2_MCK / TIM8_CH1 / SDIO_D6 / TIM3_CH1, 38 PC7 / I2S3_MCK / TIM8_CH2 / SDIO_D7 / TIM3_CH2, 39 PC8 / TIM8_CH3 / SDIO_D0 / TIM3_CH3, 40 PC9 / TIM8_CH4 / SDIO_D1 / TIM3_CH4, 41 PA8 / USART1_CK / TIM1_CH1 / MCO, 42 PA9 / USART1_TX / TIM1_CH2, 43 PA10 / USART1_RX / TIM1_CH3, 44 PA11 / USART1_CTS / USBDM / CAN_RX / TIM1_CH4, 45 PA12 / USART1_RTS / USBDP / CAN_TX / TIM1_ETR, 46 JTMS-SWDIO / PA13, 47 VSS_2, 48 VDD_2, 49 JTCK-SWCLK / PA14, 50 JTDI / SPI3_NSS / I2S3_WS / TIM2_CH1_ETR / PA15 / SPI1_NSS, 51 PC10 / UART4_TX / SDIO_D2 / USART3_TX, 52 PC11 / UART4_RX / SDIO_D3 / USART3_RX, 53 PC12 / UART5_TX / SDIO_CK / USART3_CK, 54 PD2 / TIM3_ETR / UART5_RX / SDIO_CMD, 55 JTDO / SPI3_SCK / I2S3_CK / PB3 / TRACESWO / TIM2_CH2 / SPI1_SCK, 56 NJTRST / SPI3_MISO / PB4 / TIM3_CH1 / SPI1_MISO, 57 PB5 / I2C1_SMBA / SPI3_MOSI / I2S3_SD / TIM3_CH2 / SPI1_MOSI, 58 PB6 / I2C1_SCL / TIM4_CH1 / USART1_TX, 59 PB7 / I2C1_SDA / FSMC_NADV / TIM4_CH2 / USART1_RX, 60 BOOT0, 61 PB8 / TIM4_CH3 / SDIO_D4 / I2C1_SCL / CAN_RX, 62 PB9 / TIM4_CH4 / SDIO_D5 / I2C1_SDA / CAN_TX, 63 VSS_3, 64 VDD_3
text: MCU

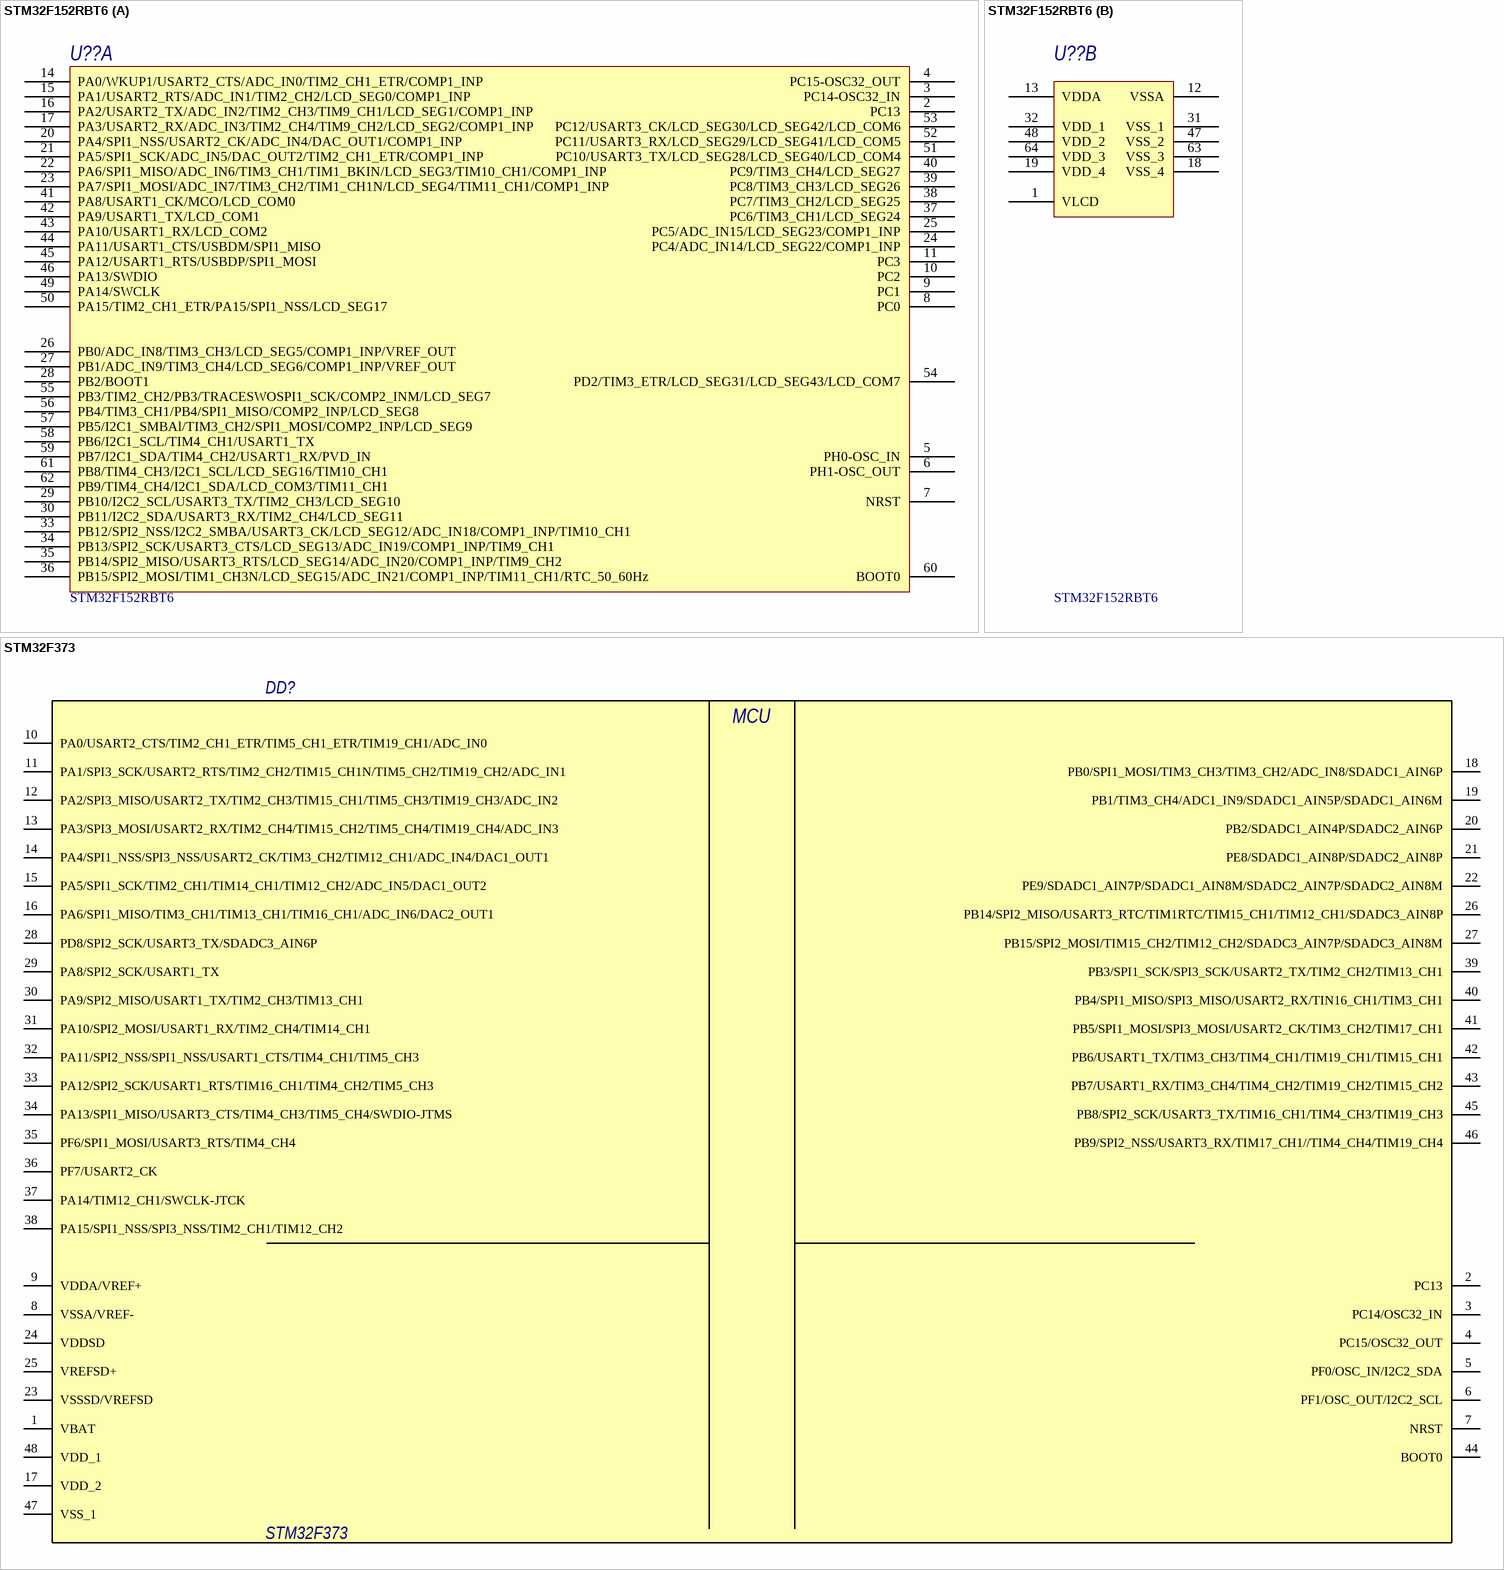
[diagram p34: symbols STM32F152RBT6 to STM32F373]

## STM32F152RBT6
designator U??
Ultralow power ARM-based 32-bit MCU (STM32-SCORPIO); Manufaturer_1: STM; Provided: ST; Order: STM32F152RBT6; Manufacturer_Part_1: STM32F152RBT6
footprint LQFP64_L (TSQFP, 64-Leads, Body 10,00x10,00mm, Pitch 0,50mm, IPC Medium Density)
footprint LQFP64_H (64-Pin Low Profile Quad Pack 0.5 mm Pitch, IPC High Density)
part A pins: 2 PC13, 3 PC14-OSC32_IN, 4 PC15-OSC32_OUT, 5 PH0-OSC_IN, 6 PH1-OSC_OUT, 7 NRST, 8 PC0, 9 PC1, 10 PC2, 11 PC3, 14 PA0/WKUP1/USART2_CTS/ADC_IN0/TIM2_CH1_ETR/COMP1_INP, 15 PA1/USART2_RTS/ADC_IN1/TIM2_CH2/LCD_SEG0/COMP1_INP, 16 PA2/USART2_TX/ADC_IN2/TIM2_CH3/TIM9_CH1/LCD_SEG1/COMP1_INP, 17 PA3/USART2_RX/ADC_IN3/TIM2_CH4/TIM9_CH2/LCD_SEG2/COMP1_INP, 20 PA4/SPI1_NSS/USART2_CK/ADC_IN4/DAC_OUT1/COMP1_INP, 21 PA5/SPI1_SCK/ADC_IN5/DAC_OUT2/TIM2_CH1_ETR/COMP1_INP, 22 PA6/SPI1_MISO/ADC_IN6/TIM3_CH1/TIM1_BKIN/LCD_SEG3/TIM10_CH1/COMP1_INP, 23 PA7/SPI1_MOSI/ADC_IN7/TIM3_CH2/TIM1_CH1N/LCD_SEG4/TIM11_CH1/COMP1_INP, 24 PC4/ADC_IN14/LCD_SEG22/COMP1_INP, 25 PC5/ADC_IN15/LCD_SEG23/COMP1_INP, 26 PB0/ADC_IN8/TIM3_CH3/LCD_SEG5/COMP1_INP/VREF_OUT, 27 PB1/ADC_IN9/TIM3_CH4/LCD_SEG6/COMP1_INP/VREF_OUT, 28 PB2/BOOT1, 29 PB10/I2C2_SCL/USART3_TX/TIM2_CH3/LCD_SEG10, 30 PB11/I2C2_SDA/USART3_RX/TIM2_CH4/LCD_SEG11, 33 PB12/SPI2_NSS/I2C2_SMBA/USART3_CK/LCD_SEG12/ADC_IN18/COMP1_INP/TIM10_CH1, 34 PB13/SPI2_SCK/USART3_CTS/LCD_SEG13/ADC_IN19/COMP1_INP/TIM9_CH1, 35 PB14/SPI2_MISO/USART3_RTS/LCD_SEG14/ADC_IN20/COMP1_INP/TIM9_CH2, 36 PB15/SPI2_MOSI/TIM1_CH3N/LCD_SEG15/ADC_IN21/COMP1_INP/TIM11_CH1/RTC_50_60Hz, 37 PC6/TIM3_CH1/LCD_SEG24, 38 PC7/TIM3_CH2/LCD_SEG25, 39 PC8/TIM3_CH3/LCD_SEG26, 40 PC9/TIM3_CH4/LCD_SEG27, 41 PA8/USART1_CK/MCO/LCD_COM0, 42 PA9/USART1_TX/LCD_COM1, 43 PA10/USART1_RX/LCD_COM2, 44 PA11/USART1_CTS/USBDM/SPI1_MISO, 45 PA12/USART1_RTS/USBDP/SPI1_MOSI, 46 PA13/SWDIO, 49 PA14/SWCLK, 50 PA15/TIM2_CH1_ETR/PA15/SPI1_NSS/LCD_SEG17, 51 PC10/USART3_TX/LCD_SEG28/LCD_SEG40/LCD_COM4, 52 PC11/USART3_RX/LCD_SEG29/LCD_SEG41/LCD_COM5, 53 PC12/USART3_CK/LCD_SEG30/LCD_SEG42/LCD_COM6, 54 PD2/TIM3_ETR/LCD_SEG31/LCD_SEG43/LCD_COM7, 55 PB3/TIM2_CH2/PB3/TRACESWOSPI1_SCK/COMP2_INM/LCD_SEG7, 56 PB4/TIM3_CH1/PB4/SPI1_MISO/COMP2_INP/LCD_SEG8, 57 PB5/I2C1_SMBAl/TIM3_CH2/SPI1_MOSI/COMP2_INP/LCD_SEG9, 58 PB6/I2C1_SCL/TIM4_CH1/USART1_TX, 59 PB7/I2C1_SDA/TIM4_CH2/USART1_RX/PVD_IN, 60 BOOT0, 61 PB8/TIM4_CH3/I2C1_SCL/LCD_SEG16/TIM10_CH1, 62 PB9/TIM4_CH4/I2C1_SDA/LCD_COM3/TIM11_CH1
part B pins: 1 VLCD, 12 VSSA, 13 VDDA, 18 VSS_4, 19 VDD_4, 31 VSS_1, 32 VDD_1, 47 VSS_2, 48 VDD_2, 63 VSS_3, 64 VDD_3

## STM32F373
designator DD?
LQFP48; Name: STM32F373
footprint LQFP48 7mm X 7mm
pins: 1 VBAT, 2 PC13, 3 PC14/OSC32_IN, 4 PC15/OSC32_OUT, 5 PF0/OSC_IN/I2C2_SDA, 6 PF1/OSC_OUT/I2C2_SCL, 7 NRST, 8 VSSA/VREF-, 9 VDDA/VREF+, 10 PA0/USART2_CTS/TIM2_CH1_ETR/TIM5_CH1_ETR/TIM19_CH1/ADC_IN0, 11 PA1/SPI3_SCK/USART2_RTS/TIM2_CH2/TIM15_CH1N/TIM5_CH2/TIM19_CH2/ADC_IN1, 12 PA2/SPI3_MISO/USART2_TX/TIM2_CH3/TIM15_CH1/TIM5_CH3/TIM19_CH3/ADC_IN2, 13 PA3/SPI3_MOSI/USART2_RX/TIM2_CH4/TIM15_CH2/TIM5_CH4/TIM19_CH4/ADC_IN3, 14 PA4/SPI1_NSS/SPI3_NSS/USART2_CK/TIM3_CH2/TIM12_CH1/ADC_IN4/DAC1_OUT1, 15 PA5/SPI1_SCK/TIM2_CH1/TIM14_CH1/TIM12_CH2/ADC_IN5/DAC1_OUT2, 16 PA6/SPI1_MISO/TIM3_CH1/TIM13_CH1/TIM16_CH1/ADC_IN6/DAC2_OUT1, 17 VDD_2, 18 PB0/SPI1_MOSI/TIM3_CH3/TIM3_CH2/ADC_IN8/SDADC1_AIN6P, 19 PB1/TIM3_CH4/ADC1_IN9/SDADC1_AIN5P/SDADC1_AIN6M, 20 PB2/SDADC1_AIN4P/SDADC2_AIN6P, 21 PE8/SDADC1_AIN8P/SDADC2_AIN8P, 22 PE9/SDADC1_AIN7P/SDADC1_AIN8M/SDADC2_AIN7P/SDADC2_AIN8M, 23 VSSSD/VREFSD, 24 VDDSD, 25 VREFSD+, 26 PB14/SPI2_MISO/USART3_RTC/TIM1RTC/TIM15_CH1/TIM12_CH1/SDADC3_AIN8P, 27 PB15/SPI2_MOSI/TIM15_CH2/TIM12_CH2/SDADC3_AIN7P/SDADC3_AIN8M, 28 PD8/SPI2_SCK/USART3_TX/SDADC3_AIN6P, 29 PA8/SPI2_SCK/USART1_TX, 30 PA9/SPI2_MISO/USART1_TX/TIM2_CH3/TIM13_CH1, 31 PA10/SPI2_MOSI/USART1_RX/TIM2_CH4/TIM14_CH1, 32 PA11/SPI2_NSS/SPI1_NSS/USART1_CTS/TIM4_CH1/TIM5_CH3, 33 PA12/SPI2_SCK/USART1_RTS/TIM16_CH1/TIM4_CH2/TIM5_CH3, 34 PA13/SPI1_MISO/USART3_CTS/TIM4_CH3/TIM5_CH4/SWDIO-JTMS, 35 PF6/SPI1_MOSI/USART3_RTS/TIM4_CH4, 36 PF7/USART2_CK, 37 PA14/TIM12_CH1/SWCLK-JTCK, 38 PA15/SPI1_NSS/SPI3_NSS/TIM2_CH1/TIM12_CH2, 39 PB3/SPI1_SCK/SPI3_SCK/USART2_TX/TIM2_CH2/TIM13_CH1, 40 PB4/SPI1_MISO/SPI3_MISO/USART2_RX/TIN16_CH1/TIM3_CH1, 41 PB5/SPI1_MOSI/SPI3_MOSI/USART2_CK/TIM3_CH2/TIM17_CH1, 42 PB6/USART1_TX/TIM3_CH3/TIM4_CH1/TIM19_CH1/TIM15_CH1, 43 PB7/USART1_RX/TIM3_CH4/TIM4_CH2/TIM19_CH2/TIM15_CH2, 44 BOOT0, 45 PB8/SPI2_SCK/USART3_TX/TIM16_CH1/TIM4_CH3/TIM19_CH3, 46 PB9/SPI2_NSS/USART3_RX/TIM17_CH1//TIM4_CH4/TIM19_CH4, 47 VSS_1, 48 VDD_1
text: MCU

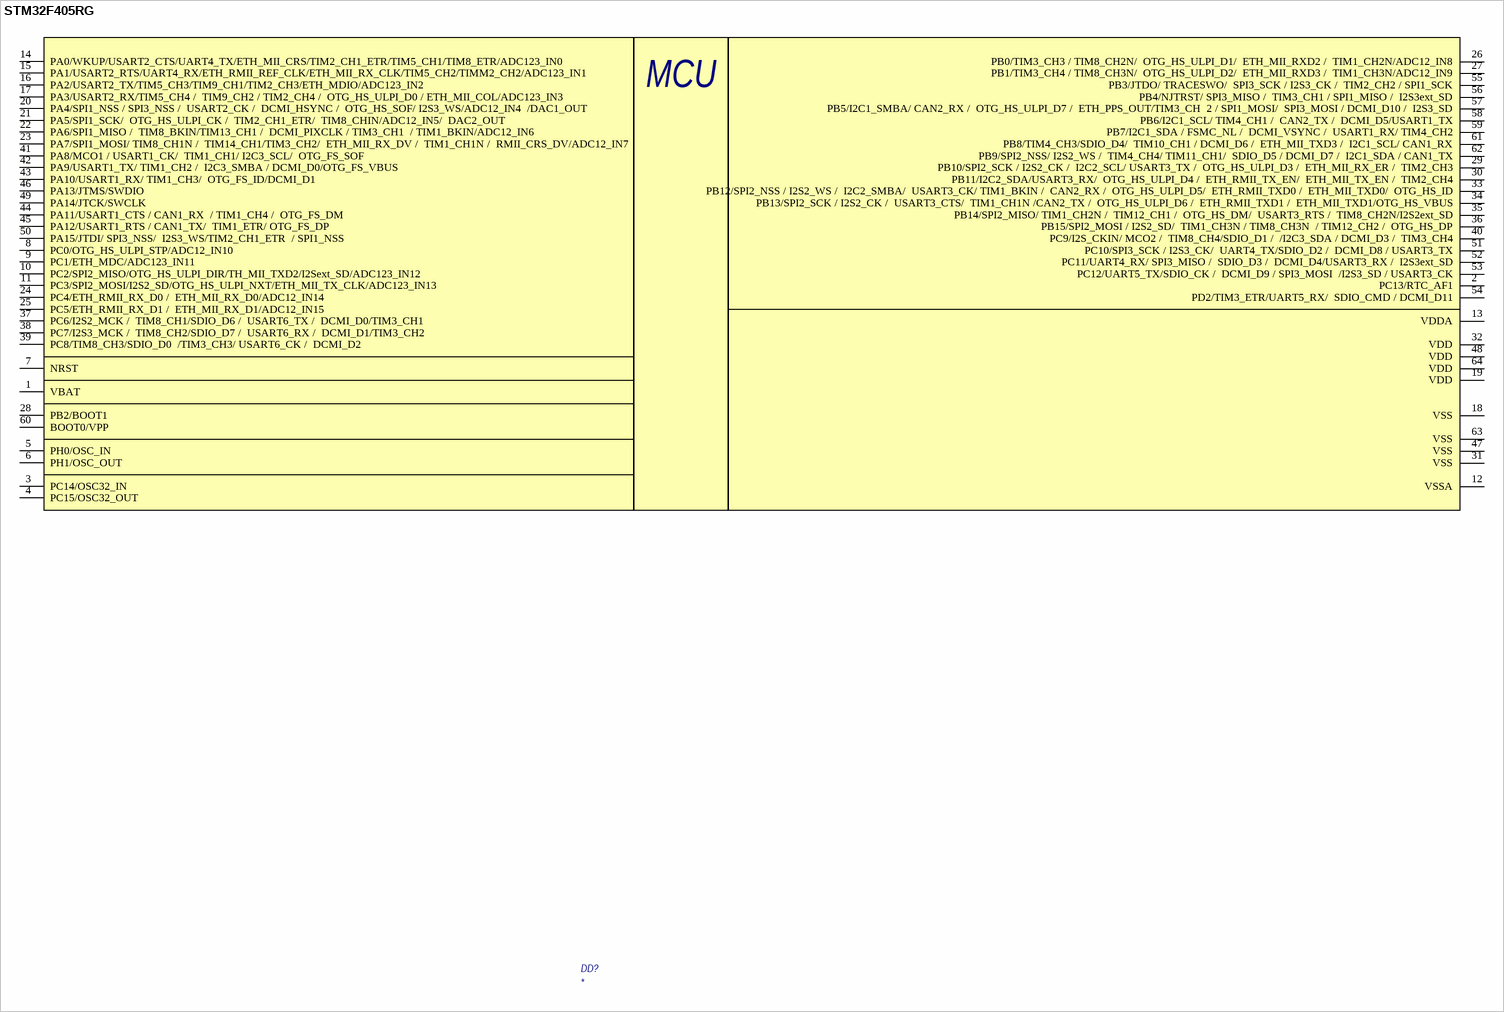
[diagram p35: symbol STM32F405RG]

## STM32F405RG
designator DD?
Микроконтроллер Cortex-M4
footprint LQFP64_L (TSQFP, 64-Leads, Body 10,00x10,00mm, Pitch 0,50mm, IPC Medium Density)
footprint LQFP64_H (64-Pin Low Profile Quad Pack 0.5 mm Pitch, IPC High Density)
pins: 1 VBAT, 2 PC13/RTC_AF1, 3 PC14/OSC32_IN, 4 PC15/OSC32_OUT, 5 PH0/OSC_IN, 6 PH1/OSC_OUT, 7 NRST, 8 PC0/OTG_HS_ULPI_STP/ADC12_IN10, 9 PC1/ETH_MDC/ADC123_IN11, 10 PC2/SPI2_MISO/OTG_HS_ULPI_DIR/TH_MII_TXD2/I2Sext_SD/ADC123_IN12, 11 PC3/SPI2_MOSI/I2S2_SD/OTG_HS_ULPI_NXT/ETH_MII_TX_CLK/ADC123_IN13, 12 VSSA, 13 VDDA, 14 PA0/WKUP/USART2_CTS/UART4_TX/ETH_MII_CRS/TIM2_CH1_ETR/TIM5_CH1/TIM8_ETR/ADC123_IN0, 15 PA1/USART2_RTS/UART4_RX/ETH_RMII_REF_CLK/ETH_MII_RX_CLK/TIM5_CH2/TIMM2_CH2/ADC123_IN1, 16 PA2/USART2_TX/TIM5_CH3/TIM9_CH1/TIM2_CH3/ETH_MDIO/ADC123_IN2, 17 PA3/USART2_RX/TIM5_CH4 /  TIM9_CH2 / TIM2_CH4 /  OTG_HS_ULPI_D0 / ETH_MII_COL/ADC123_IN3, 18 VSS, 19 VDD, 20 PA4/SPI1_NSS / SPI3_NSS /  USART2_CK /  DCMI_HSYNC /  OTG_HS_SOF/ I2S3_WS/ADC12_IN4  /DAC1_OUT, 21 PA5/SPI1_SCK/  OTG_HS_ULPI_CK /  TIM2_CH1_ETR/  TIM8_CHIN/ADC12_IN5/  DAC2_OUT, 22 PA6/SPI1_MISO /  TIM8_BKIN/TIM13_CH1 /  DCMI_PIXCLK / TIM3_CH1  / TIM1_BKIN/ADC12_IN6, 23 PA7/SPI1_MOSI/ TIM8_CH1N /  TIM14_CH1/TIM3_CH2/  ETH_MII_RX_DV /  TIM1_CH1N /  RMII_CRS_DV/ADC12_IN7, 24 PC4/ETH_RMII_RX_D0 /  ETH_MII_RX_D0/ADC12_IN14, 25 PC5/ETH_RMII_RX_D1 /  ETH_MII_RX_D1/ADC12_IN15, 26 PB0/TIM3_CH3 / TIM8_CH2N/  OTG_HS_ULPI_D1/  ETH_MII_RXD2 /  TIM1_CH2N/ADC12_IN8, 27 PB1/TIM3_CH4 / TIM8_CH3N/  OTG_HS_ULPI_D2/  ETH_MII_RXD3 /  TIM1_CH3N/ADC12_IN9, 28 PB2/BOOT1, 29 PB10/SPI2_SCK / I2S2_CK /  I2C2_SCL/ USART3_TX /  OTG_HS_ULPI_D3 /  ETH_MII_RX_ER /  TIM2_CH3, 30 PB11/I2C2_SDA/USART3_RX/  OTG_HS_ULPI_D4 /  ETH_RMII_TX_EN/  ETH_MII_TX_EN /  TIM2_CH4, 31 VSS, 32 VDD, 33 PB12/SPI2_NSS / I2S2_WS /  I2C2_SMBA/  USART3_CK/ TIM1_BKIN /  CAN2_RX /  OTG_HS_ULPI_D5/  ETH_RMII_TXD0 /  ETH_MII_TXD0/  OTG_HS_ID, 34 PB13/SPI2_SCK / I2S2_CK /  USART3_CTS/  TIM1_CH1N /CAN2_TX /  OTG_HS_ULPI_D6 /  ETH_RMII_TXD1 /  ETH_MII_TXD1/OTG_HS_VBUS, 35 PB14/SPI2_MISO/ TIM1_CH2N /  TIM12_CH1 /  OTG_HS_DM/  USART3_RTS /  TIM8_CH2N/I2S2ext_SD, 36 PB15/SPI2_MOSI / I2S2_SD/  TIM1_CH3N / TIM8_CH3N  / TIM12_CH2 /  OTG_HS_DP, 37 PC6/I2S2_MCK /  TIM8_CH1/SDIO_D6 /  USART6_TX /  DCMI_D0/TIM3_CH1, 38 PC7/I2S3_MCK /  TIM8_CH2/SDIO_D7 /  USART6_RX /  DCMI_D1/TIM3_CH2, 39 PC8/TIM8_CH3/SDIO_D0  /TIM3_CH3/ USART6_CK /  DCMI_D2, 40 PC9/I2S_CKIN/ MCO2 /  TIM8_CH4/SDIO_D1 /  /I2C3_SDA / DCMI_D3 /  TIM3_CH4, 41 PA8/MCO1 / USART1_CK/  TIM1_CH1/ I2C3_SCL/  OTG_FS_SOF, 42 PA9/USART1_TX/ TIM1_CH2 /  I2C3_SMBA / DCMI_D0/OTG_FS_VBUS, 43 PA10/USART1_RX/ TIM1_CH3/  OTG_FS_ID/DCMI_D1, 44 PA11/USART1_CTS / CAN1_RX  / TIM1_CH4 /  OTG_FS_DM, 45 PA12/USART1_RTS / CAN1_TX/  TIM1_ETR/ OTG_FS_DP, 46 PA13/JTMS/SWDIO, 47 VSS, 48 VDD, 49 PA14/JTCK/SWCLK, 50 PA15/JTDI/ SPI3_NSS/  I2S3_WS/TIM2_CH1_ETR  / SPI1_NSS, 51 PC10/SPI3_SCK / I2S3_CK/  UART4_TX/SDIO_D2 /  DCMI_D8 / USART3_TX, 52 PC11/UART4_RX/ SPI3_MISO /  SDIO_D3 /  DCMI_D4/USART3_RX /  I2S3ext_SD, 53 PC12/UART5_TX/SDIO_CK /  DCMI_D9 / SPI3_MOSI  /I2S3_SD / USART3_CK, 54 PD2/TIM3_ETR/UART5_RX/  SDIO_CMD / DCMI_D11, 55 PB3/JTDO/ TRACESWO/  SPI3_SCK / I2S3_CK /  TIM2_CH2 / SPI1_SCK, 56 PB4/NJTRST/ SPI3_MISO /  TIM3_CH1 / SPI1_MISO /  I2S3ext_SD, 57 PB5/I2C1_SMBA/ CAN2_RX /  OTG_HS_ULPI_D7 /  ETH_PPS_OUT/TIM3_CH  2 / SPI1_MOSI/  SPI3_MOSI / DCMI_D10 /  I2S3_SD, 58 PB6/I2C1_SCL/ TIM4_CH1 /  CAN2_TX /  DCMI_D5/USART1_TX, 59 PB7/I2C1_SDA / FSMC_NL /  DCMI_VSYNC /  USART1_RX/ TIM4_CH2, 60 BOOT0/VPP, 61 PB8/TIM4_CH3/SDIO_D4/  TIM10_CH1 / DCMI_D6 /  ETH_MII_TXD3 /  I2C1_SCL/ CAN1_RX, 62 PB9/SPI2_NSS/ I2S2_WS /  TIM4_CH4/ TIM11_CH1/  SDIO_D5 / DCMI_D7 /  I2C1_SDA / CAN1_TX, 63 VSS, 64 VDD
text: MCU

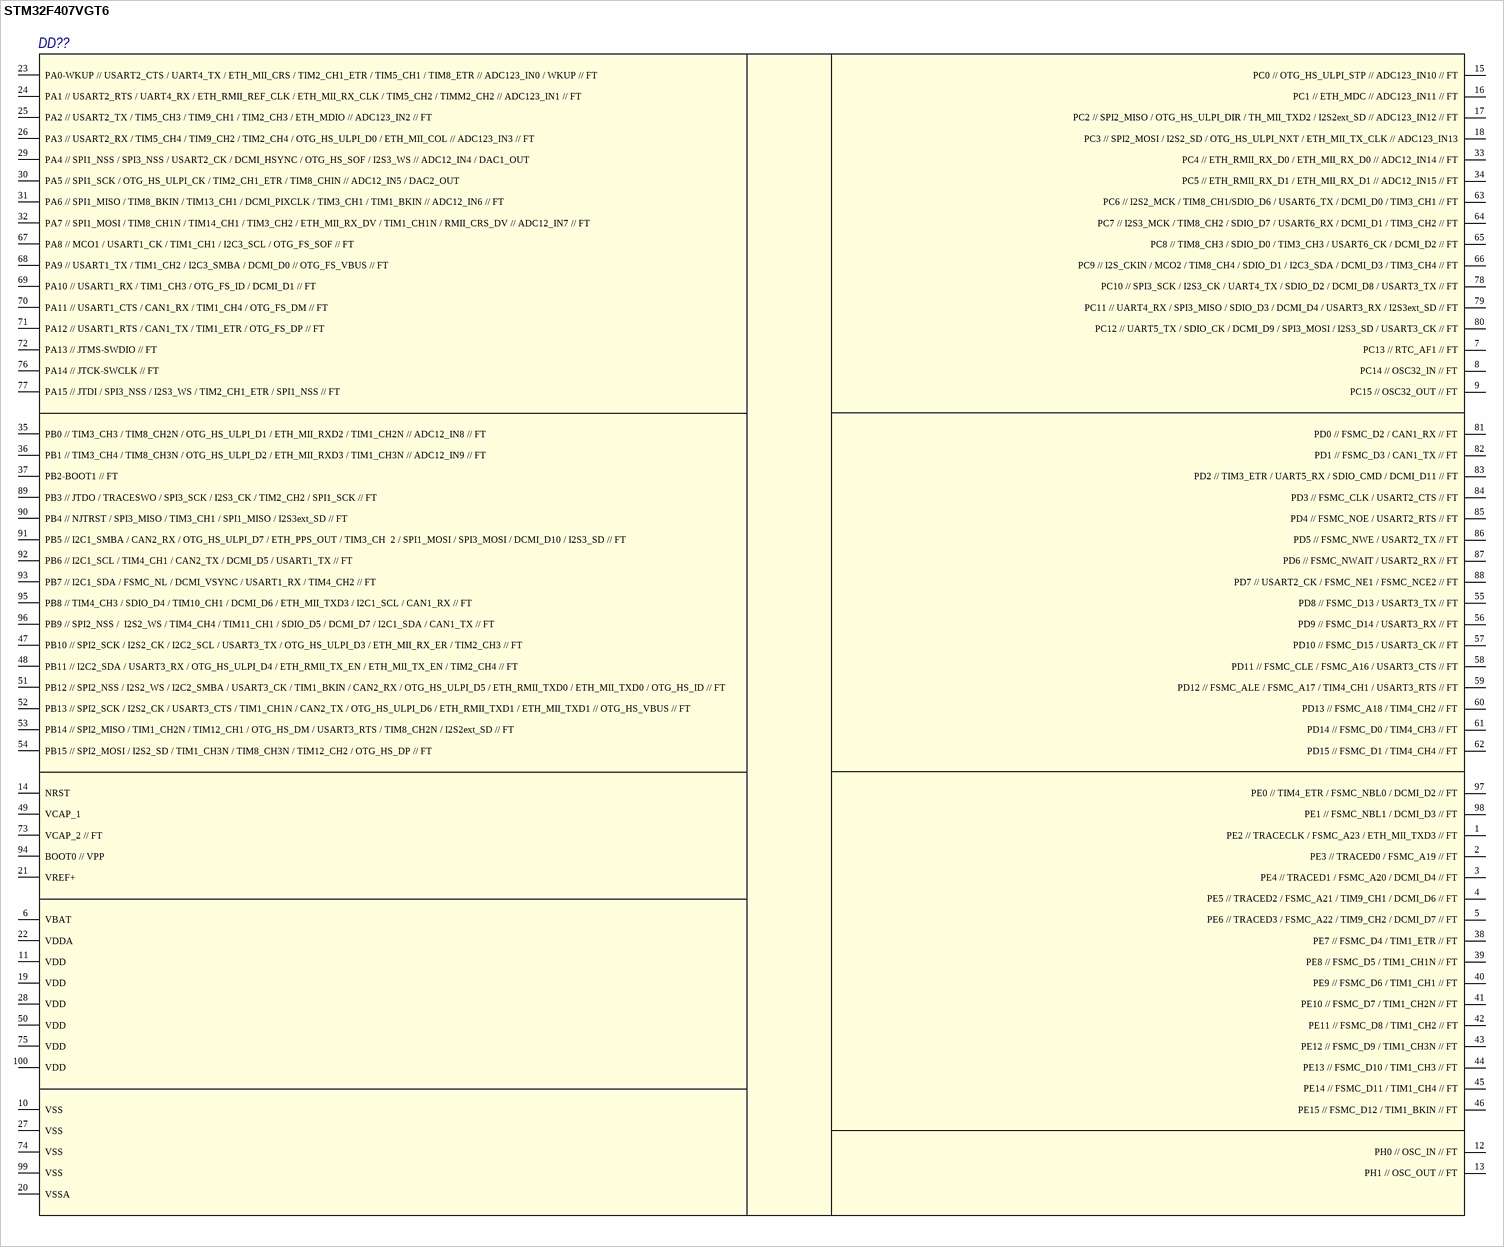
[diagram p36: symbol STM32F407VGT6]